# Altium schematic symbol library MCU_Texas_MSP430.SchLib: 361 symbols (part 2 of 7)
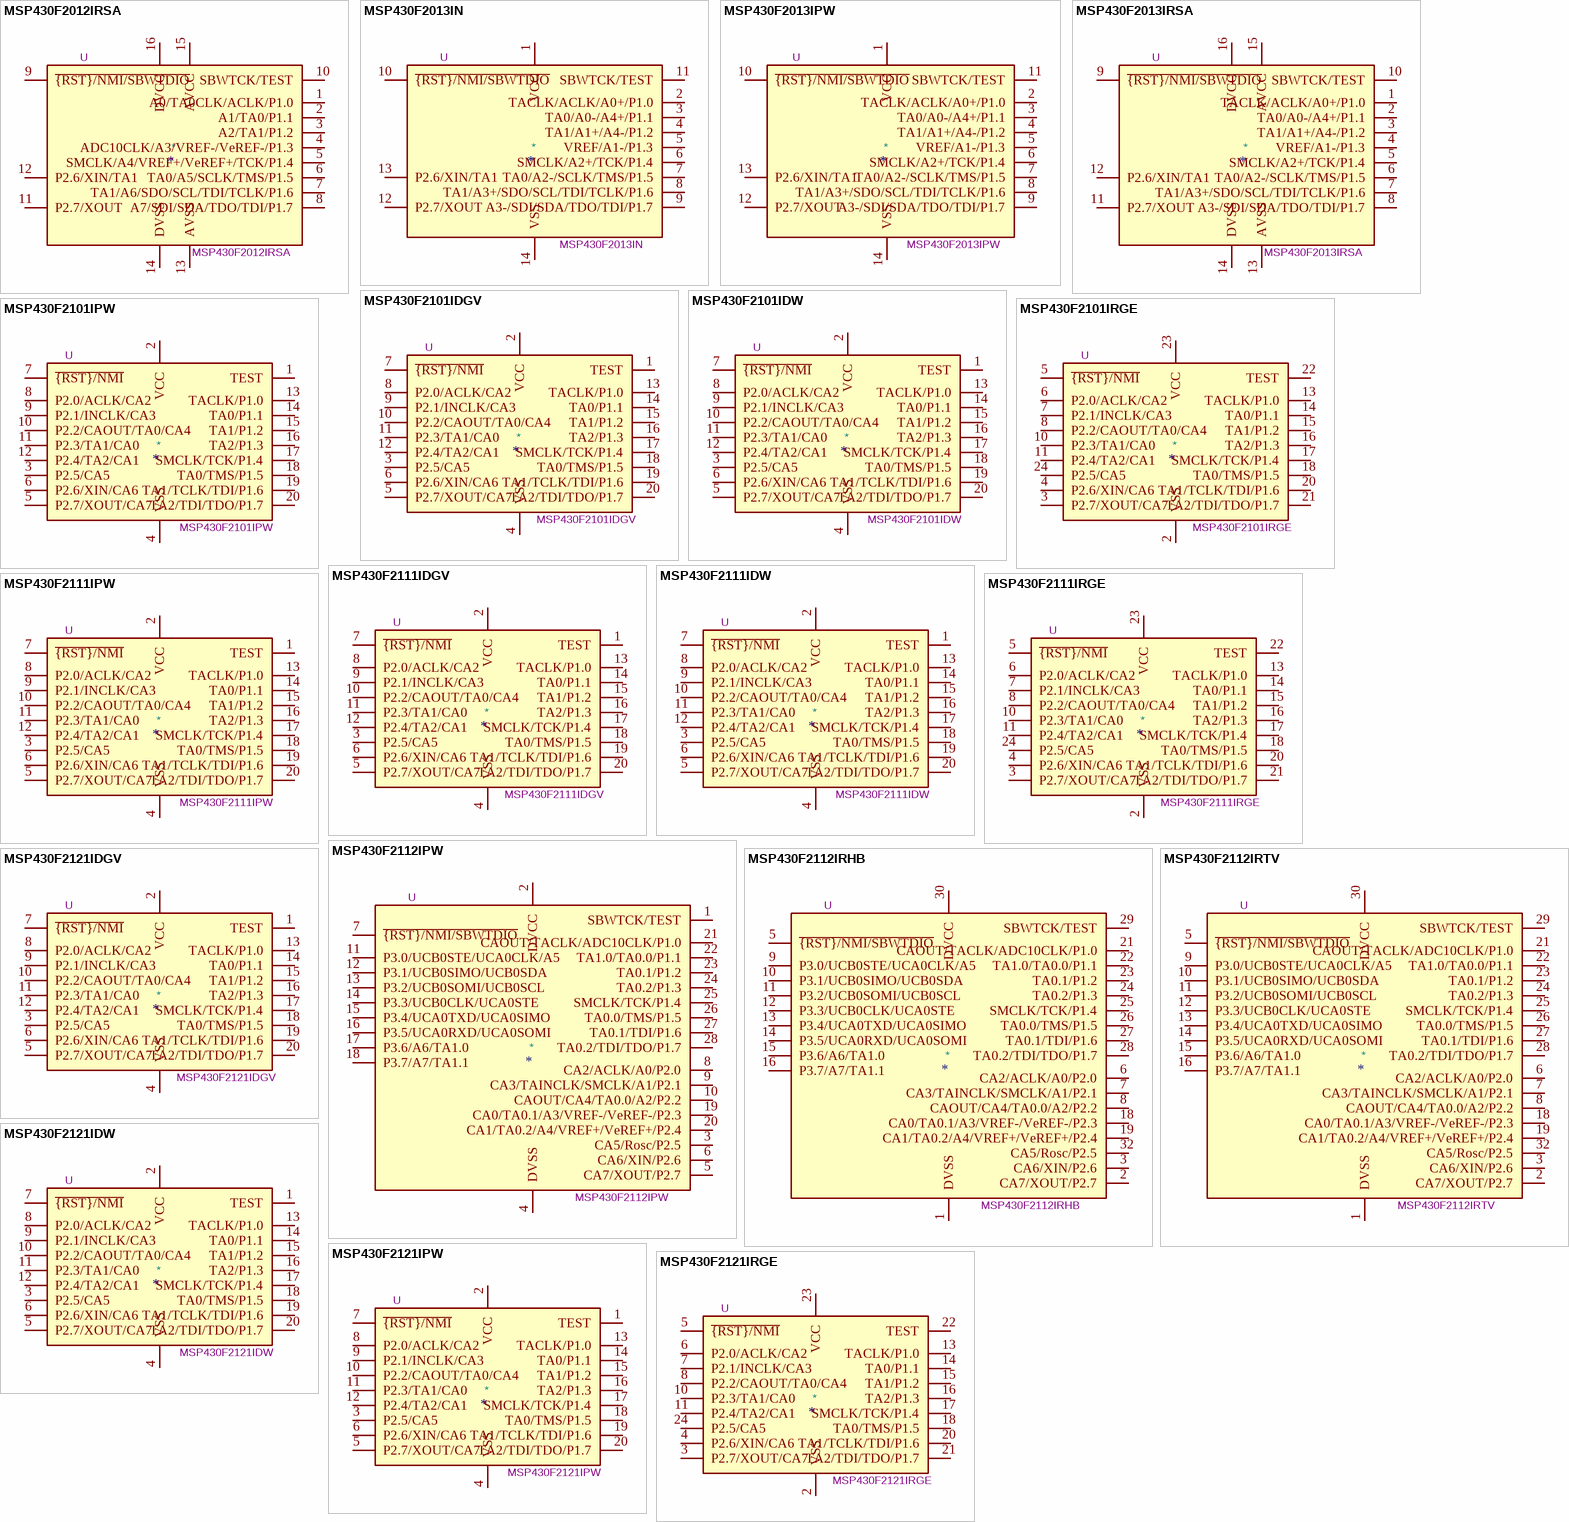
[diagram p35: symbols MSP430F2012IRSA to MSP430F2121IRGE]

## MSP430F2112IRHB
designator *  value MSP430F2112IRHB  Reference: U
2kB + 256B Flash, 256B RAM, QFN-32; ki_keywords: TI MSP430 16-bit mixed signal microcontroller; ki_fp_filters: Texas*VQFN*1EP*5x5mm*P0.5mm*; Footprint: Package_DFN_QFN:Texas_RHB0032E_VQFN-32-1EP_5x5mm_P0.5mm_EP3.45x3.45mm; Datasheet: http://www.ti.com/lit/ds/symlink/msp430f2112.pdf; Description_: 2kB + 256B Flash, 256B RAM, QFN-32
pins: 1 DVSS, 2 CA7/XOUT/P2.7, 3 CA6/XIN/P2.6, 5 ~{{RST}/NMI/SBWTDIO}, 6 CA2/ACLK/A0/P2.0, 7 CA3/TAINCLK/SMCLK/A1/P2.1, 8 CAOUT/CA4/TA0.0/A2/P2.2, 9 P3.0/UCB0STE/UCA0CLK/A5, 10 P3.1/UCB0SIMO/UCB0SDA, 11 P3.2/UCB0SOMI/UCB0SCL, 12 P3.3/UCB0CLK/UCA0STE, 13 P3.4/UCA0TXD/UCA0SIMO, 14 P3.5/UCA0RXD/UCA0SOMI, 15 P3.6/A6/TA1.0, 16 P3.7/A7/TA1.1, 18 CA0/TA0.1/A3/VREF-/VeREF-/P2.3, 19 CA1/TA0.2/A4/VREF+/VeREF+/P2.4, 21 CAOUT/TACLK/ADC10CLK/P1.0, 22 TA1.0/TA0.0/P1.1, 23 TA0.1/P1.2, 24 TA0.2/P1.3, 25 SMCLK/TCK/P1.4, 26 TA0.0/TMS/P1.5, 27 TA0.1/TDI/P1.6, 28 TA0.2/TDI/TDO/P1.7, 29 SBWTCK/TEST, 30 DVCC, 32 CA5/Rosc/P2.5

## MSP430F2112IRTV
designator *  value MSP430F2112IRTV  Reference: U
2kB + 256B Flash, 256B RAM, QFN-32; ki_keywords: TI MSP430 16-bit mixed signal microcontroller; ki_fp_filters: Texas*VQFN*1EP*5x5mm*P0.5mm*; Footprint: Package_DFN_QFN:Texas_RHB0032E_VQFN-32-1EP_5x5mm_P0.5mm_EP3.45x3.45mm; Datasheet: http://www.ti.com/lit/ds/symlink/msp430f2112.pdf; Description_: 2kB + 256B Flash, 256B RAM, QFN-32
pins: 1 DVSS, 2 CA7/XOUT/P2.7, 3 CA6/XIN/P2.6, 5 ~{{RST}/NMI/SBWTDIO}, 6 CA2/ACLK/A0/P2.0, 7 CA3/TAINCLK/SMCLK/A1/P2.1, 8 CAOUT/CA4/TA0.0/A2/P2.2, 9 P3.0/UCB0STE/UCA0CLK/A5, 10 P3.1/UCB0SIMO/UCB0SDA, 11 P3.2/UCB0SOMI/UCB0SCL, 12 P3.3/UCB0CLK/UCA0STE, 13 P3.4/UCA0TXD/UCA0SIMO, 14 P3.5/UCA0RXD/UCA0SOMI, 15 P3.6/A6/TA1.0, 16 P3.7/A7/TA1.1, 18 CA0/TA0.1/A3/VREF-/VeREF-/P2.3, 19 CA1/TA0.2/A4/VREF+/VeREF+/P2.4, 21 CAOUT/TACLK/ADC10CLK/P1.0, 22 TA1.0/TA0.0/P1.1, 23 TA0.1/P1.2, 24 TA0.2/P1.3, 25 SMCLK/TCK/P1.4, 26 TA0.0/TMS/P1.5, 27 TA0.1/TDI/P1.6, 28 TA0.2/TDI/TDO/P1.7, 29 SBWTCK/TEST, 30 DVCC, 32 CA5/Rosc/P2.5

## MSP430F2121IDGV
designator *  value MSP430F2121IDGV  Reference: U
4kB + 256B Flash, 256B RAM, TVSOP-20; ki_keywords: TI MSP430 16-bit mixed signal microcontroller; ki_fp_filters: TSSOP*4.4x6.5mm*P0.65mm*; Footprint: Package_SO:TSSOP-20_4.4x6.5mm_P0.65mm; Datasheet: http://www.ti.com/lit/ds/symlink/msp430f2121.pdf; Description_: 4kB + 256B Flash, 256B RAM, TVSOP-20
pins: 1 TEST, 2 VCC, 3 P2.5/CA5, 4 VSS, 5 P2.7/XOUT/CA7, 6 P2.6/XIN/CA6, 7 ~{{RST}/NMI}, 8 P2.0/ACLK/CA2, 9 P2.1/INCLK/CA3, 10 P2.2/CAOUT/TA0/CA4, 11 P2.3/TA1/CA0, 12 P2.4/TA2/CA1, 13 TACLK/P1.0, 14 TA0/P1.1, 15 TA1/P1.2, 16 TA2/P1.3, 17 SMCLK/TCK/P1.4, 18 TA0/TMS/P1.5, 19 TA1/TCLK/TDI/P1.6, 20 TA2/TDI/TDO/P1.7

## MSP430F2121IDW
designator *  value MSP430F2121IDW  Reference: U
4kB + 256B Flash, 256B RAM, SOWB-20; ki_keywords: TI MSP430 16-bit mixed signal microcontroller; ki_fp_filters: SOIC*7.5x12.8mm*P1.27mm*; Footprint: Package_SO:SOIC-20W_7.5x12.8mm_P1.27mm; Datasheet: http://www.ti.com/lit/ds/symlink/msp430f2121.pdf; Description_: 4kB + 256B Flash, 256B RAM, SOWB-20
pins: 1 TEST, 2 VCC, 3 P2.5/CA5, 4 VSS, 5 P2.7/XOUT/CA7, 6 P2.6/XIN/CA6, 7 ~{{RST}/NMI}, 8 P2.0/ACLK/CA2, 9 P2.1/INCLK/CA3, 10 P2.2/CAOUT/TA0/CA4, 11 P2.3/TA1/CA0, 12 P2.4/TA2/CA1, 13 TACLK/P1.0, 14 TA0/P1.1, 15 TA1/P1.2, 16 TA2/P1.3, 17 SMCLK/TCK/P1.4, 18 TA0/TMS/P1.5, 19 TA1/TCLK/TDI/P1.6, 20 TA2/TDI/TDO/P1.7

## MSP430F2121IPW
designator *  value MSP430F2121IPW  Reference: U
4kB + 256B Flash, 256B RAM, TSSOP-20; ki_keywords: TI MSP430 16-bit mixed signal microcontroller; ki_fp_filters: TSSOP*4.4x6.5mm*P0.65mm*; Footprint: Package_SO:TSSOP-20_4.4x6.5mm_P0.65mm; Datasheet: http://www.ti.com/lit/ds/symlink/msp430f2121.pdf; Description_: 4kB + 256B Flash, 256B RAM, TSSOP-20
pins: 1 TEST, 2 VCC, 3 P2.5/CA5, 4 VSS, 5 P2.7/XOUT/CA7, 6 P2.6/XIN/CA6, 7 ~{{RST}/NMI}, 8 P2.0/ACLK/CA2, 9 P2.1/INCLK/CA3, 10 P2.2/CAOUT/TA0/CA4, 11 P2.3/TA1/CA0, 12 P2.4/TA2/CA1, 13 TACLK/P1.0, 14 TA0/P1.1, 15 TA1/P1.2, 16 TA2/P1.3, 17 SMCLK/TCK/P1.4, 18 TA0/TMS/P1.5, 19 TA1/TCLK/TDI/P1.6, 20 TA2/TDI/TDO/P1.7

## MSP430F2121IRGE
designator *  value MSP430F2121IRGE  Reference: U
4kB + 256B Flash, 256B RAM, QFN-24; ki_keywords: TI MSP430 16-bit mixed signal microcontroller; ki_fp_filters: VQFN*1EP*4x4mm*P0.5mm*; Footprint: Package_DFN_QFN:VQFN-24-1EP_4x4mm_P0.5mm_EP2.45x2.45mm; Datasheet: http://www.ti.com/lit/ds/symlink/msp430f2121.pdf; Description_: 4kB + 256B Flash, 256B RAM, QFN-24
pins: 2 VSS, 3 P2.7/XOUT/CA7, 4 P2.6/XIN/CA6, 5 ~{{RST}/NMI}, 6 P2.0/ACLK/CA2, 7 P2.1/INCLK/CA3, 8 P2.2/CAOUT/TA0/CA4, 10 P2.3/TA1/CA0, 11 P2.4/TA2/CA1, 13 TACLK/P1.0, 14 TA0/P1.1, 15 TA1/P1.2, 16 TA2/P1.3, 17 SMCLK/TCK/P1.4, 18 TA0/TMS/P1.5, 20 TA1/TCLK/TDI/P1.6, 21 TA2/TDI/TDO/P1.7, 22 TEST, 23 VCC, 24 P2.5/CA5

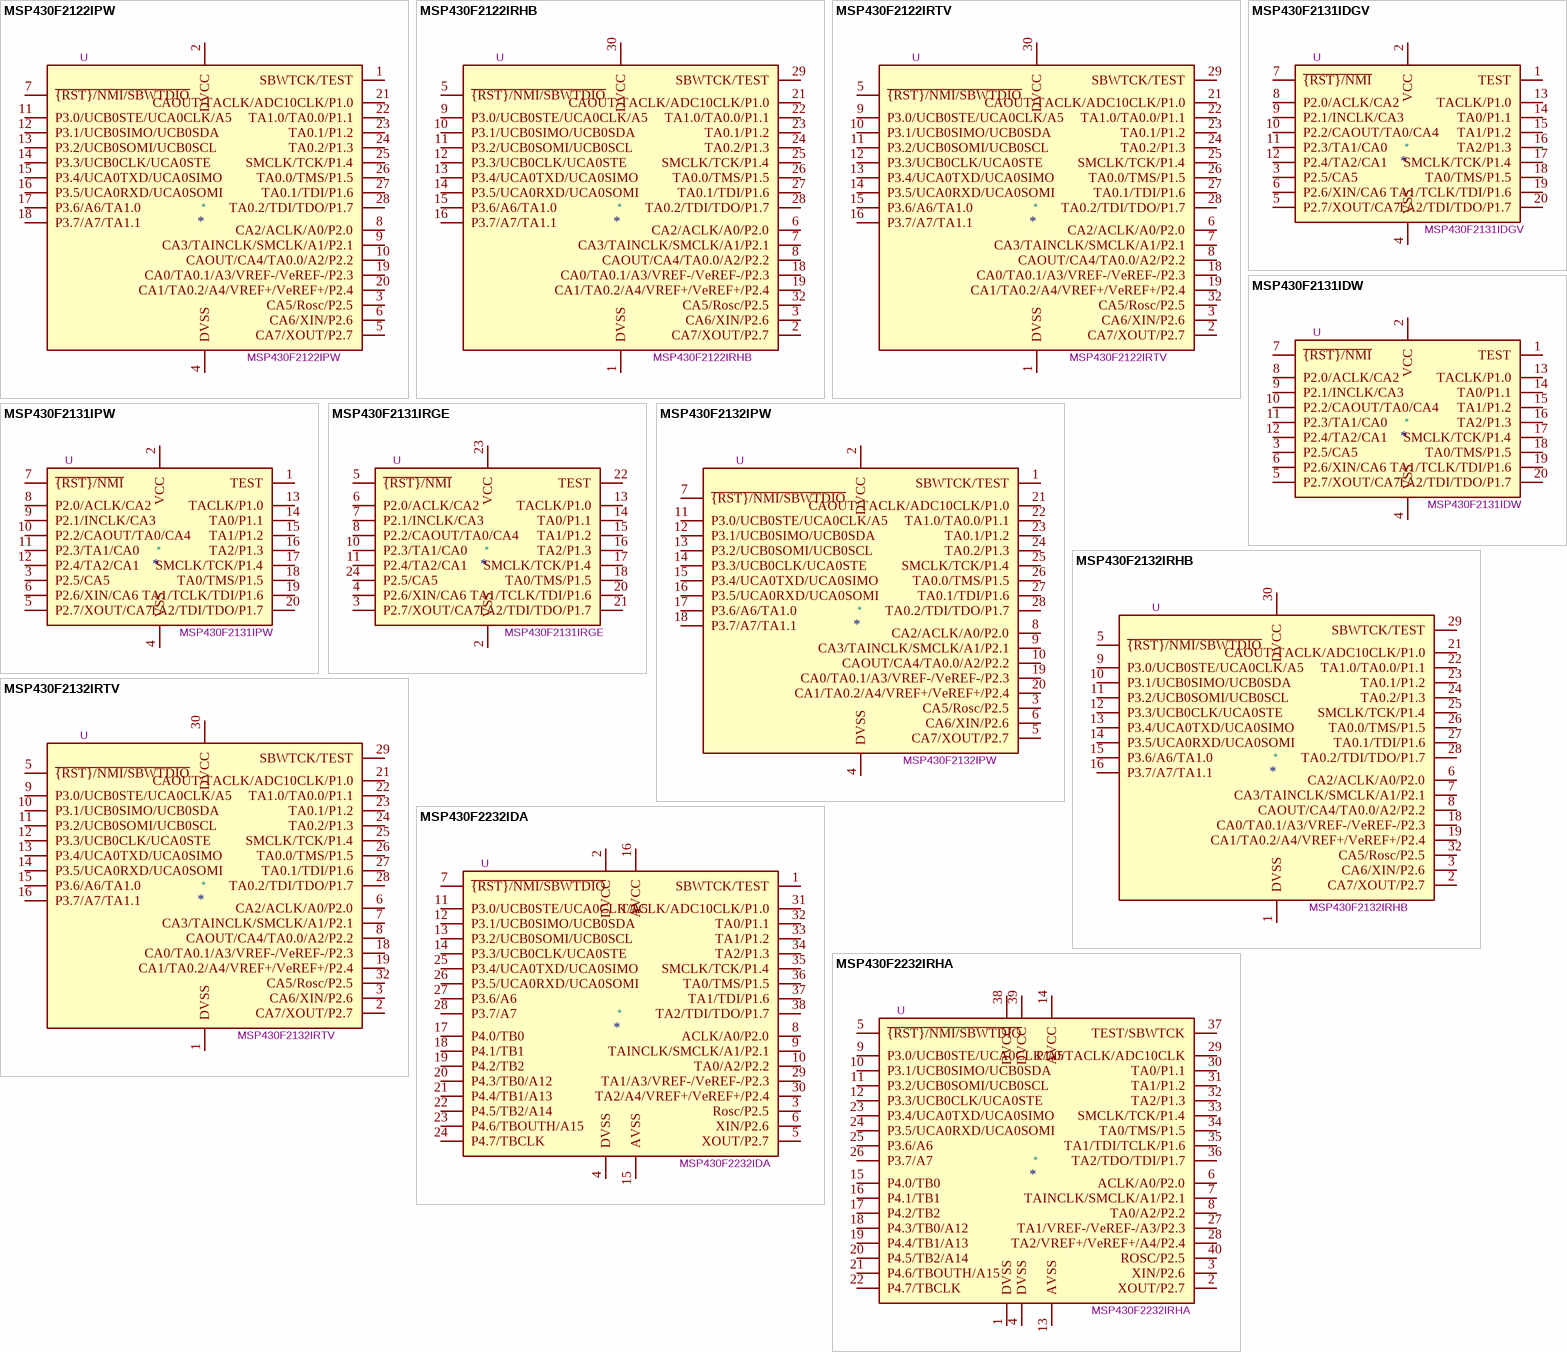
[diagram p4: symbols MSP430F2122IPW to MSP430F2232IRHA]

## MSP430F2122IPW
designator *  value MSP430F2122IPW  Reference: U
4kB + 256B Flash, 512B RAM, TSSOP-28; ki_keywords: TI MSP430 16-bit mixed signal microcontroller; ki_fp_filters: TSSOP*4.4x9.7mm*P0.65mm*; Footprint: Package_SO:TSSOP-28_4.4x9.7mm_P0.65mm; Datasheet: http://www.ti.com/lit/ds/symlink/msp430f2122.pdf; Description_: 4kB + 256B Flash, 512B RAM, TSSOP-28
pins: 1 SBWTCK/TEST, 2 DVCC, 3 CA5/Rosc/P2.5, 4 DVSS, 5 CA7/XOUT/P2.7, 6 CA6/XIN/P2.6, 7 ~{{RST}/NMI/SBWTDIO}, 8 CA2/ACLK/A0/P2.0, 9 CA3/TAINCLK/SMCLK/A1/P2.1, 10 CAOUT/CA4/TA0.0/A2/P2.2, 11 P3.0/UCB0STE/UCA0CLK/A5, 12 P3.1/UCB0SIMO/UCB0SDA, 13 P3.2/UCB0SOMI/UCB0SCL, 14 P3.3/UCB0CLK/UCA0STE, 15 P3.4/UCA0TXD/UCA0SIMO, 16 P3.5/UCA0RXD/UCA0SOMI, 17 P3.6/A6/TA1.0, 18 P3.7/A7/TA1.1, 19 CA0/TA0.1/A3/VREF-/VeREF-/P2.3, 20 CA1/TA0.2/A4/VREF+/VeREF+/P2.4, 21 CAOUT/TACLK/ADC10CLK/P1.0, 22 TA1.0/TA0.0/P1.1, 23 TA0.1/P1.2, 24 TA0.2/P1.3, 25 SMCLK/TCK/P1.4, 26 TA0.0/TMS/P1.5, 27 TA0.1/TDI/P1.6, 28 TA0.2/TDI/TDO/P1.7

## MSP430F2122IRHB
designator *  value MSP430F2122IRHB  Reference: U
4kB + 256B Flash, 512B RAM, QFN-32; ki_keywords: TI MSP430 16-bit mixed signal microcontroller; ki_fp_filters: Texas*VQFN*1EP*5x5mm*P0.5mm*; Footprint: Package_DFN_QFN:Texas_RHB0032E_VQFN-32-1EP_5x5mm_P0.5mm_EP3.45x3.45mm; Datasheet: http://www.ti.com/lit/ds/symlink/msp430f2122.pdf; Description_: 4kB + 256B Flash, 512B RAM, QFN-32
pins: 1 DVSS, 2 CA7/XOUT/P2.7, 3 CA6/XIN/P2.6, 5 ~{{RST}/NMI/SBWTDIO}, 6 CA2/ACLK/A0/P2.0, 7 CA3/TAINCLK/SMCLK/A1/P2.1, 8 CAOUT/CA4/TA0.0/A2/P2.2, 9 P3.0/UCB0STE/UCA0CLK/A5, 10 P3.1/UCB0SIMO/UCB0SDA, 11 P3.2/UCB0SOMI/UCB0SCL, 12 P3.3/UCB0CLK/UCA0STE, 13 P3.4/UCA0TXD/UCA0SIMO, 14 P3.5/UCA0RXD/UCA0SOMI, 15 P3.6/A6/TA1.0, 16 P3.7/A7/TA1.1, 18 CA0/TA0.1/A3/VREF-/VeREF-/P2.3, 19 CA1/TA0.2/A4/VREF+/VeREF+/P2.4, 21 CAOUT/TACLK/ADC10CLK/P1.0, 22 TA1.0/TA0.0/P1.1, 23 TA0.1/P1.2, 24 TA0.2/P1.3, 25 SMCLK/TCK/P1.4, 26 TA0.0/TMS/P1.5, 27 TA0.1/TDI/P1.6, 28 TA0.2/TDI/TDO/P1.7, 29 SBWTCK/TEST, 30 DVCC, 32 CA5/Rosc/P2.5

## MSP430F2122IRTV
designator *  value MSP430F2122IRTV  Reference: U
4kB + 256B Flash, 512B RAM, QFN-32; ki_keywords: TI MSP430 16-bit mixed signal microcontroller; ki_fp_filters: Texas*VQFN*1EP*5x5mm*P0.5mm*; Footprint: Package_DFN_QFN:Texas_RHB0032E_VQFN-32-1EP_5x5mm_P0.5mm_EP3.45x3.45mm; Datasheet: http://www.ti.com/lit/ds/symlink/msp430f2122.pdf; Description_: 4kB + 256B Flash, 512B RAM, QFN-32
pins: 1 DVSS, 2 CA7/XOUT/P2.7, 3 CA6/XIN/P2.6, 5 ~{{RST}/NMI/SBWTDIO}, 6 CA2/ACLK/A0/P2.0, 7 CA3/TAINCLK/SMCLK/A1/P2.1, 8 CAOUT/CA4/TA0.0/A2/P2.2, 9 P3.0/UCB0STE/UCA0CLK/A5, 10 P3.1/UCB0SIMO/UCB0SDA, 11 P3.2/UCB0SOMI/UCB0SCL, 12 P3.3/UCB0CLK/UCA0STE, 13 P3.4/UCA0TXD/UCA0SIMO, 14 P3.5/UCA0RXD/UCA0SOMI, 15 P3.6/A6/TA1.0, 16 P3.7/A7/TA1.1, 18 CA0/TA0.1/A3/VREF-/VeREF-/P2.3, 19 CA1/TA0.2/A4/VREF+/VeREF+/P2.4, 21 CAOUT/TACLK/ADC10CLK/P1.0, 22 TA1.0/TA0.0/P1.1, 23 TA0.1/P1.2, 24 TA0.2/P1.3, 25 SMCLK/TCK/P1.4, 26 TA0.0/TMS/P1.5, 27 TA0.1/TDI/P1.6, 28 TA0.2/TDI/TDO/P1.7, 29 SBWTCK/TEST, 30 DVCC, 32 CA5/Rosc/P2.5

## MSP430F2131IDGV
designator *  value MSP430F2131IDGV  Reference: U
8kB + 256B Flash, 256B RAM, TVSOP-20; ki_keywords: TI MSP430 16-bit mixed signal microcontroller; ki_fp_filters: TSSOP*4.4x6.5mm*P0.65mm*; Footprint: Package_SO:TSSOP-20_4.4x6.5mm_P0.65mm; Datasheet: http://www.ti.com/lit/ds/symlink/msp430f2131.pdf; Description_: 8kB + 256B Flash, 256B RAM, TVSOP-20
pins: 1 TEST, 2 VCC, 3 P2.5/CA5, 4 VSS, 5 P2.7/XOUT/CA7, 6 P2.6/XIN/CA6, 7 ~{{RST}/NMI}, 8 P2.0/ACLK/CA2, 9 P2.1/INCLK/CA3, 10 P2.2/CAOUT/TA0/CA4, 11 P2.3/TA1/CA0, 12 P2.4/TA2/CA1, 13 TACLK/P1.0, 14 TA0/P1.1, 15 TA1/P1.2, 16 TA2/P1.3, 17 SMCLK/TCK/P1.4, 18 TA0/TMS/P1.5, 19 TA1/TCLK/TDI/P1.6, 20 TA2/TDI/TDO/P1.7

## MSP430F2131IDW
designator *  value MSP430F2131IDW  Reference: U
8kB + 256B Flash, 256B RAM, SOWB-20; ki_keywords: TI MSP430 16-bit mixed signal microcontroller; ki_fp_filters: SOIC*7.5x12.8mm*P1.27mm*; Footprint: Package_SO:SOIC-20W_7.5x12.8mm_P1.27mm; Datasheet: http://www.ti.com/lit/ds/symlink/msp430f2131.pdf; Description_: 8kB + 256B Flash, 256B RAM, SOWB-20
pins: 1 TEST, 2 VCC, 3 P2.5/CA5, 4 VSS, 5 P2.7/XOUT/CA7, 6 P2.6/XIN/CA6, 7 ~{{RST}/NMI}, 8 P2.0/ACLK/CA2, 9 P2.1/INCLK/CA3, 10 P2.2/CAOUT/TA0/CA4, 11 P2.3/TA1/CA0, 12 P2.4/TA2/CA1, 13 TACLK/P1.0, 14 TA0/P1.1, 15 TA1/P1.2, 16 TA2/P1.3, 17 SMCLK/TCK/P1.4, 18 TA0/TMS/P1.5, 19 TA1/TCLK/TDI/P1.6, 20 TA2/TDI/TDO/P1.7

## MSP430F2131IPW
designator *  value MSP430F2131IPW  Reference: U
8kB + 256B Flash, 256B RAM, TSSOP-20; ki_keywords: TI MSP430 16-bit mixed signal microcontroller; ki_fp_filters: TSSOP*4.4x6.5mm*P0.65mm*; Footprint: Package_SO:TSSOP-20_4.4x6.5mm_P0.65mm; Datasheet: http://www.ti.com/lit/ds/symlink/msp430f2131.pdf; Description_: 8kB + 256B Flash, 256B RAM, TSSOP-20
pins: 1 TEST, 2 VCC, 3 P2.5/CA5, 4 VSS, 5 P2.7/XOUT/CA7, 6 P2.6/XIN/CA6, 7 ~{{RST}/NMI}, 8 P2.0/ACLK/CA2, 9 P2.1/INCLK/CA3, 10 P2.2/CAOUT/TA0/CA4, 11 P2.3/TA1/CA0, 12 P2.4/TA2/CA1, 13 TACLK/P1.0, 14 TA0/P1.1, 15 TA1/P1.2, 16 TA2/P1.3, 17 SMCLK/TCK/P1.4, 18 TA0/TMS/P1.5, 19 TA1/TCLK/TDI/P1.6, 20 TA2/TDI/TDO/P1.7

## MSP430F2131IRGE
designator *  value MSP430F2131IRGE  Reference: U
8kB + 256B Flash, 256B RAM, QFN-24; ki_keywords: TI MSP430 16-bit mixed signal microcontroller; ki_fp_filters: VQFN*1EP*4x4mm*P0.5mm*; Footprint: Package_DFN_QFN:VQFN-24-1EP_4x4mm_P0.5mm_EP2.45x2.45mm; Datasheet: http://www.ti.com/lit/ds/symlink/msp430f2131.pdf; Description_: 8kB + 256B Flash, 256B RAM, QFN-24
pins: 2 VSS, 3 P2.7/XOUT/CA7, 4 P2.6/XIN/CA6, 5 ~{{RST}/NMI}, 6 P2.0/ACLK/CA2, 7 P2.1/INCLK/CA3, 8 P2.2/CAOUT/TA0/CA4, 10 P2.3/TA1/CA0, 11 P2.4/TA2/CA1, 13 TACLK/P1.0, 14 TA0/P1.1, 15 TA1/P1.2, 16 TA2/P1.3, 17 SMCLK/TCK/P1.4, 18 TA0/TMS/P1.5, 20 TA1/TCLK/TDI/P1.6, 21 TA2/TDI/TDO/P1.7, 22 TEST, 23 VCC, 24 P2.5/CA5

## MSP430F2132IPW
designator *  value MSP430F2132IPW  Reference: U
8kB + 256B Flash, 512B RAM, TSSOP-28; ki_keywords: TI MSP430 16-bit mixed signal microcontroller; ki_fp_filters: TSSOP*4.4x9.7mm*P0.65mm*; Footprint: Package_SO:TSSOP-28_4.4x9.7mm_P0.65mm; Datasheet: http://www.ti.com/lit/ds/symlink/msp430f2132.pdf; Description_: 8kB + 256B Flash, 512B RAM, TSSOP-28
pins: 1 SBWTCK/TEST, 2 DVCC, 3 CA5/Rosc/P2.5, 4 DVSS, 5 CA7/XOUT/P2.7, 6 CA6/XIN/P2.6, 7 ~{{RST}/NMI/SBWTDIO}, 8 CA2/ACLK/A0/P2.0, 9 CA3/TAINCLK/SMCLK/A1/P2.1, 10 CAOUT/CA4/TA0.0/A2/P2.2, 11 P3.0/UCB0STE/UCA0CLK/A5, 12 P3.1/UCB0SIMO/UCB0SDA, 13 P3.2/UCB0SOMI/UCB0SCL, 14 P3.3/UCB0CLK/UCA0STE, 15 P3.4/UCA0TXD/UCA0SIMO, 16 P3.5/UCA0RXD/UCA0SOMI, 17 P3.6/A6/TA1.0, 18 P3.7/A7/TA1.1, 19 CA0/TA0.1/A3/VREF-/VeREF-/P2.3, 20 CA1/TA0.2/A4/VREF+/VeREF+/P2.4, 21 CAOUT/TACLK/ADC10CLK/P1.0, 22 TA1.0/TA0.0/P1.1, 23 TA0.1/P1.2, 24 TA0.2/P1.3, 25 SMCLK/TCK/P1.4, 26 TA0.0/TMS/P1.5, 27 TA0.1/TDI/P1.6, 28 TA0.2/TDI/TDO/P1.7

## MSP430F2132IRHB
designator *  value MSP430F2132IRHB  Reference: U
8kB + 256B Flash, 512B RAM, QFN-32; ki_keywords: TI MSP430 16-bit mixed signal microcontroller; ki_fp_filters: Texas*VQFN*1EP*5x5mm*P0.5mm*; Footprint: Package_DFN_QFN:Texas_RHB0032E_VQFN-32-1EP_5x5mm_P0.5mm_EP3.45x3.45mm; Datasheet: http://www.ti.com/lit/ds/symlink/msp430f2132.pdf; Description_: 8kB + 256B Flash, 512B RAM, QFN-32
pins: 1 DVSS, 2 CA7/XOUT/P2.7, 3 CA6/XIN/P2.6, 5 ~{{RST}/NMI/SBWTDIO}, 6 CA2/ACLK/A0/P2.0, 7 CA3/TAINCLK/SMCLK/A1/P2.1, 8 CAOUT/CA4/TA0.0/A2/P2.2, 9 P3.0/UCB0STE/UCA0CLK/A5, 10 P3.1/UCB0SIMO/UCB0SDA, 11 P3.2/UCB0SOMI/UCB0SCL, 12 P3.3/UCB0CLK/UCA0STE, 13 P3.4/UCA0TXD/UCA0SIMO, 14 P3.5/UCA0RXD/UCA0SOMI, 15 P3.6/A6/TA1.0, 16 P3.7/A7/TA1.1, 18 CA0/TA0.1/A3/VREF-/VeREF-/P2.3, 19 CA1/TA0.2/A4/VREF+/VeREF+/P2.4, 21 CAOUT/TACLK/ADC10CLK/P1.0, 22 TA1.0/TA0.0/P1.1, 23 TA0.1/P1.2, 24 TA0.2/P1.3, 25 SMCLK/TCK/P1.4, 26 TA0.0/TMS/P1.5, 27 TA0.1/TDI/P1.6, 28 TA0.2/TDI/TDO/P1.7, 29 SBWTCK/TEST, 30 DVCC, 32 CA5/Rosc/P2.5

## MSP430F2132IRTV
designator *  value MSP430F2132IRTV  Reference: U
8kB + 256B Flash, 512B RAM, QFN-32; ki_keywords: TI MSP430 16-bit mixed signal microcontroller; ki_fp_filters: Texas*VQFN*1EP*5x5mm*P0.5mm*; Footprint: Package_DFN_QFN:Texas_RHB0032E_VQFN-32-1EP_5x5mm_P0.5mm_EP3.45x3.45mm; Datasheet: http://www.ti.com/lit/ds/symlink/msp430f2132.pdf; Description_: 8kB + 256B Flash, 512B RAM, QFN-32
pins: 1 DVSS, 2 CA7/XOUT/P2.7, 3 CA6/XIN/P2.6, 5 ~{{RST}/NMI/SBWTDIO}, 6 CA2/ACLK/A0/P2.0, 7 CA3/TAINCLK/SMCLK/A1/P2.1, 8 CAOUT/CA4/TA0.0/A2/P2.2, 9 P3.0/UCB0STE/UCA0CLK/A5, 10 P3.1/UCB0SIMO/UCB0SDA, 11 P3.2/UCB0SOMI/UCB0SCL, 12 P3.3/UCB0CLK/UCA0STE, 13 P3.4/UCA0TXD/UCA0SIMO, 14 P3.5/UCA0RXD/UCA0SOMI, 15 P3.6/A6/TA1.0, 16 P3.7/A7/TA1.1, 18 CA0/TA0.1/A3/VREF-/VeREF-/P2.3, 19 CA1/TA0.2/A4/VREF+/VeREF+/P2.4, 21 CAOUT/TACLK/ADC10CLK/P1.0, 22 TA1.0/TA0.0/P1.1, 23 TA0.1/P1.2, 24 TA0.2/P1.3, 25 SMCLK/TCK/P1.4, 26 TA0.0/TMS/P1.5, 27 TA0.1/TDI/P1.6, 28 TA0.2/TDI/TDO/P1.7, 29 SBWTCK/TEST, 30 DVCC, 32 CA5/Rosc/P2.5

## MSP430F2232IDA
designator *  value MSP430F2232IDA  Reference: U
8kB + 256B Flash, 512B RAM, TSSOP-38; ki_keywords: TI MSP430 16-bit mixed signal microcontroller; ki_fp_filters: TSSOP*6.1x12.5mm*P0.65mm*; Footprint: Package_SO:TSSOP-38_6.1x12.5mm_P0.65mm; Datasheet: http://www.ti.com/lit/ds/symlink/msp430f2232.pdf; Description_: 8kB + 256B Flash, 512B RAM, TSSOP-38
pins: 1 SBWTCK/TEST, 2 DVCC, 3 Rosc/P2.5, 4 DVSS, 5 XOUT/P2.7, 6 XIN/P2.6, 7 ~{{RST}/NMI/SBWTDIO}, 8 ACLK/A0/P2.0, 9 TAINCLK/SMCLK/A1/P2.1, 10 TA0/A2/P2.2, 11 P3.0/UCB0STE/UCA0CLK/A5, 12 P3.1/UCB0SIMO/UCB0SDA, 13 P3.2/UCB0SOMI/UCB0SCL, 14 P3.3/UCB0CLK/UCA0STE, 15 AVSS, 16 AVCC, 17 P4.0/TB0, 18 P4.1/TB1, 19 P4.2/TB2, 20 P4.3/TB0/A12, 21 P4.4/TB1/A13, 22 P4.5/TB2/A14, 23 P4.6/TBOUTH/A15, 24 P4.7/TBCLK, 25 P3.4/UCA0TXD/UCA0SIMO, 26 P3.5/UCA0RXD/UCA0SOMI, 27 P3.6/A6, 28 P3.7/A7, 29 TA1/A3/VREF-/VeREF-/P2.3, 30 TA2/A4/VREF+/VeREF+/P2.4, 31 TACLK/ADC10CLK/P1.0, 32 TA0/P1.1, 33 TA1/P1.2, 34 TA2/P1.3, 35 SMCLK/TCK/P1.4, 36 TA0/TMS/P1.5, 37 TA1/TDI/P1.6, 38 TA2/TDI/TDO/P1.7

## MSP430F2232IRHA
designator *  value MSP430F2232IRHA  Reference: U
8kB + 256B Flash, 512B RAM, QFN-40; ki_keywords: TI MSP430 16-bit mixed signal microcontroller; ki_fp_filters: Texas*RHA0040B*; Footprint: Package_DFN_QFN:Texas_RHA0040B_VQFN-40-1EP_6x6mm_P0.5mm_EP4.15x4.15mm; Datasheet: http://www.ti.com/lit/ds/symlink/msp430f2232.pdf; Description_: 8kB + 256B Flash, 512B RAM, QFN-40
pins: 1 DVSS, 2 XOUT/P2.7, 3 XIN/P2.6, 4 DVSS, 5 ~{{RST}/NMI/SBWTDIO}, 6 ACLK/A0/P2.0, 7 TAINCLK/SMCLK/A1/P2.1, 8 TA0/A2/P2.2, 9 P3.0/UCB0STE/UCA0CLK/A5, 10 P3.1/UCB0SIMO/UCB0SDA, 11 P3.2/UCB0SOMI/UCB0SCL, 12 P3.3/UCB0CLK/UCA0STE, 13 AVSS, 14 AVCC, 15 P4.0/TB0, 16 P4.1/TB1, 17 P4.2/TB2, 18 P4.3/TB0/A12, 19 P4.4/TB1/A13, 20 P4.5/TB2/A14, 21 P4.6/TBOUTH/A15, 22 P4.7/TBCLK, 23 P3.4/UCA0TXD/UCA0SIMO, 24 P3.5/UCA0RXD/UCA0SOMI, 25 P3.6/A6, 26 P3.7/A7, 27 TA1/VREF-/VeREF-/A3/P2.3, 28 TA2/VREF+/VeREF+/A4/P2.4, 29 P1.0/TACLK/ADC10CLK, 30 TA0/P1.1, 31 TA1/P1.2, 32 TA2/P1.3, 33 SMCLK/TCK/P1.4, 34 TA0/TMS/P1.5, 35 TA1/TDI/TCLK/P1.6, 36 TA2/TDO/TDI/P1.7, 37 TEST/SBWTCK, 38 DVCC, 39 DVCC, 40 ROSC/P2.5

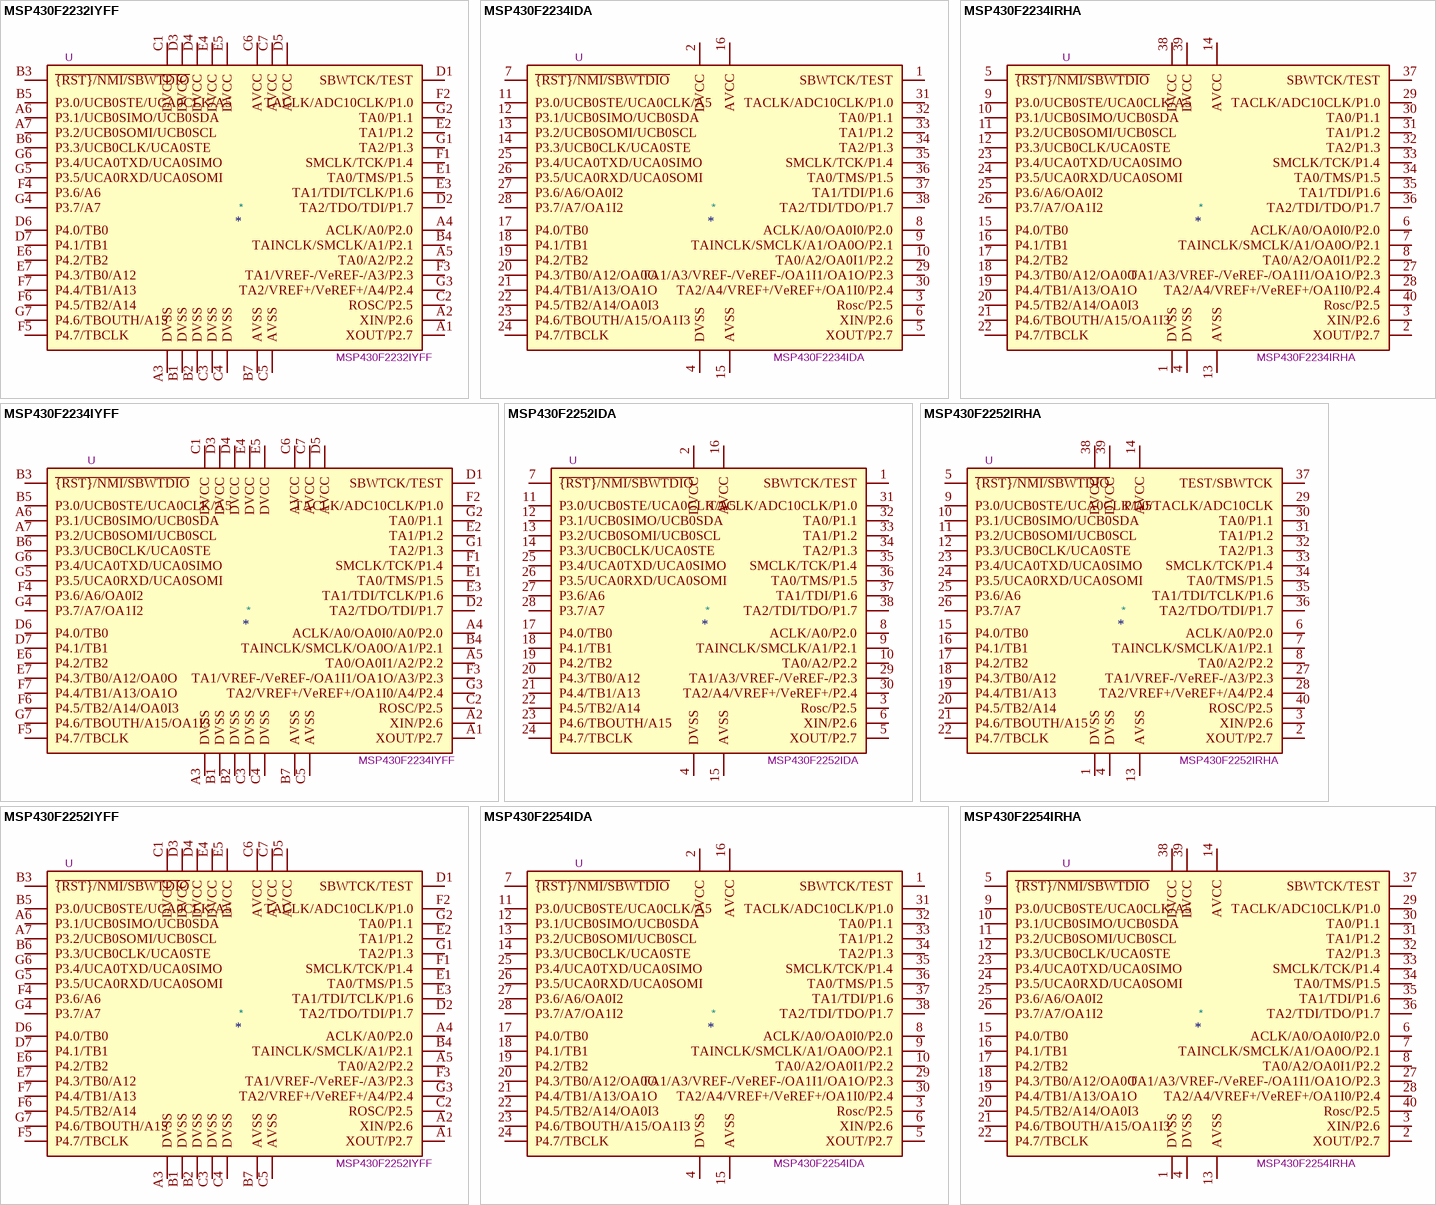
[diagram p5: symbols MSP430F2232IYFF to MSP430F2254IRHA]

## MSP430F2232IYFF
designator *  value MSP430F2232IYFF  Reference: U
8kB + 256B Flash, 512B RAM, BGA-49; ki_keywords: TI MSP430 16-bit mixed signal microcontroller; ki_fp_filters: Texas*DSBGA*3.33x3.488mm*Layout7x7*P0.4mm*; Footprint: Package_BGA:Texas_DSBGA-49_3.33x3.488mm_Layout7x7_P0.4mm; Datasheet: http://www.ti.com/lit/ds/symlink/msp430f2232.pdf; Description_: 8kB + 256B Flash, 512B RAM, BGA-49
pins: A1 XOUT/P2.7, A2 XIN/P2.6, A3 DVSS, A4 ACLK/A0/P2.0, A5 TA0/A2/P2.2, A6 P3.1/UCB0SIMO/UCB0SDA, A7 P3.2/UCB0SOMI/UCB0SCL, B1 DVSS, B2 DVSS, B3 ~{{RST}/NMI/SBWTDIO}, B4 TAINCLK/SMCLK/A1/P2.1, B5 P3.0/UCB0STE/UCA0CLK/A5, B6 P3.3/UCB0CLK/UCA0STE, B7 AVSS, C1 DVCC, C2 ROSC/P2.5, C3 DVSS, C4 DVSS, C5 AVSS, C6 AVCC, C7 AVCC, D1 SBWTCK/TEST, D2 TA2/TDO/TDI/P1.7, D3 DVCC, D4 DVCC, D5 AVCC, D6 P4.0/TB0, D7 P4.1/TB1, E1 TA0/TMS/P1.5, E2 TA1/P1.2, E3 TA1/TDI/TCLK/P1.6, E4 DVCC, E5 DVCC, E6 P4.2/TB2, E7 P4.3/TB0/A12, F1 SMCLK/TCK/P1.4, F2 TACLK/ADC10CLK/P1.0, F3 TA1/VREF-/VeREF-/A3/P2.3, F4 P3.6/A6, F5 P4.7/TBCLK, F6 P4.5/TB2/A14, F7 P4.4/TB1/A13, G1 TA2/P1.3, G2 TA0/P1.1, G3 TA2/VREF+/VeREF+/A4/P2.4, G4 P3.7/A7, G5 P3.5/UCA0RXD/UCA0SOMI, G6 P3.4/UCA0TXD/UCA0SIMO, G7 P4.6/TBOUTH/A15

## MSP430F2234IDA
designator *  value MSP430F2234IDA  Reference: U
8kB + 256B Flash, 512B RAM, TSSOP-38; ki_keywords: TI MSP430 16-bit mixed signal microcontroller; ki_fp_filters: TSSOP*6.1x12.5mm*P0.65mm*; Footprint: Package_SO:TSSOP-38_6.1x12.5mm_P0.65mm; Datasheet: http://www.ti.com/lit/ds/symlink/msp430f2234.pdf; Description_: 8kB + 256B Flash, 512B RAM, TSSOP-38
pins: 1 SBWTCK/TEST, 2 DVCC, 3 Rosc/P2.5, 4 DVSS, 5 XOUT/P2.7, 6 XIN/P2.6, 7 ~{{RST}/NMI/SBWTDIO}, 8 ACLK/A0/OA0I0/P2.0, 9 TAINCLK/SMCLK/A1/OA0O/P2.1, 10 TA0/A2/OA0I1/P2.2, 11 P3.0/UCB0STE/UCA0CLK/A5, 12 P3.1/UCB0SIMO/UCB0SDA, 13 P3.2/UCB0SOMI/UCB0SCL, 14 P3.3/UCB0CLK/UCA0STE, 15 AVSS, 16 AVCC, 17 P4.0/TB0, 18 P4.1/TB1, 19 P4.2/TB2, 20 P4.3/TB0/A12/OA0O, 21 P4.4/TB1/A13/OA1O, 22 P4.5/TB2/A14/OA0I3, 23 P4.6/TBOUTH/A15/OA1I3, 24 P4.7/TBCLK, 25 P3.4/UCA0TXD/UCA0SIMO, 26 P3.5/UCA0RXD/UCA0SOMI, 27 P3.6/A6/OA0I2, 28 P3.7/A7/OA1I2, 29 TA1/A3/VREF-/VeREF-/OA1I1/OA1O/P2.3, 30 TA2/A4/VREF+/VeREF+/OA1I0/P2.4, 31 TACLK/ADC10CLK/P1.0, 32 TA0/P1.1, 33 TA1/P1.2, 34 TA2/P1.3, 35 SMCLK/TCK/P1.4, 36 TA0/TMS/P1.5, 37 TA1/TDI/P1.6, 38 TA2/TDI/TDO/P1.7

## MSP430F2234IRHA
designator *  value MSP430F2234IRHA  Reference: U
8kB + 256B Flash, 512B RAM, QFN-40; ki_keywords: TI MSP430 16-bit mixed signal microcontroller; ki_fp_filters: Texas*RHA0040B*; Footprint: Package_DFN_QFN:Texas_RHA0040B_VQFN-40-1EP_6x6mm_P0.5mm_EP4.15x4.15mm; Datasheet: http://www.ti.com/lit/ds/symlink/msp430f2234.pdf; Description_: 8kB + 256B Flash, 512B RAM, QFN-40
pins: 1 DVSS, 2 XOUT/P2.7, 3 XIN/P2.6, 4 DVSS, 5 ~{{RST}/NMI/SBWTDIO}, 6 ACLK/A0/OA0I0/P2.0, 7 TAINCLK/SMCLK/A1/OA0O/P2.1, 8 TA0/A2/OA0I1/P2.2, 9 P3.0/UCB0STE/UCA0CLK/A5, 10 P3.1/UCB0SIMO/UCB0SDA, 11 P3.2/UCB0SOMI/UCB0SCL, 12 P3.3/UCB0CLK/UCA0STE, 13 AVSS, 14 AVCC, 15 P4.0/TB0, 16 P4.1/TB1, 17 P4.2/TB2, 18 P4.3/TB0/A12/OA0O, 19 P4.4/TB1/A13/OA1O, 20 P4.5/TB2/A14/OA0I3, 21 P4.6/TBOUTH/A15/OA1I3, 22 P4.7/TBCLK, 23 P3.4/UCA0TXD/UCA0SIMO, 24 P3.5/UCA0RXD/UCA0SOMI, 25 P3.6/A6/OA0I2, 26 P3.7/A7/OA1I2, 27 TA1/A3/VREF-/VeREF-/OA1I1/OA1O/P2.3, 28 TA2/A4/VREF+/VeREF+/OA1I0/P2.4, 29 TACLK/ADC10CLK/P1.0, 30 TA0/P1.1, 31 TA1/P1.2, 32 TA2/P1.3, 33 SMCLK/TCK/P1.4, 34 TA0/TMS/P1.5, 35 TA1/TDI/P1.6, 36 TA2/TDI/TDO/P1.7, 37 SBWTCK/TEST, 38 DVCC, 39 DVCC, 40 Rosc/P2.5

## MSP430F2234IYFF
designator *  value MSP430F2234IYFF  Reference: U
8kB + 256B Flash, 512B RAM, BGA-49; ki_keywords: TI MSP430 16-bit mixed signal microcontroller; ki_fp_filters: Texas*DSBGA*3.33x3.488mm*Layout7x7*P0.4mm*; Footprint: Package_BGA:Texas_DSBGA-49_3.33x3.488mm_Layout7x7_P0.4mm; Datasheet: http://www.ti.com/lit/ds/symlink/msp430f2234.pdf; Description_: 8kB + 256B Flash, 512B RAM, BGA-49
pins: A1 XOUT/P2.7, A2 XIN/P2.6, A3 DVSS, A4 ACLK/A0/OA0I0/A0/P2.0, A5 TA0/OA0I1/A2/P2.2, A6 P3.1/UCB0SIMO/UCB0SDA, A7 P3.2/UCB0SOMI/UCB0SCL, B1 DVSS, B2 DVSS, B3 ~{{RST}/NMI/SBWTDIO}, B4 TAINCLK/SMCLK/OA0O/A1/P2.1, B5 P3.0/UCB0STE/UCA0CLK/A5, B6 P3.3/UCB0CLK/UCA0STE, B7 AVSS, C1 DVCC, C2 ROSC/P2.5, C3 DVSS, C4 DVSS, C5 AVSS, C6 AVCC, C7 AVCC, D1 SBWTCK/TEST, D2 TA2/TDO/TDI/P1.7, D3 DVCC, D4 DVCC, D5 AVCC, D6 P4.0/TB0, D7 P4.1/TB1, E1 TA0/TMS/P1.5, E2 TA1/P1.2, E3 TA1/TDI/TCLK/P1.6, E4 DVCC, E5 DVCC, E6 P4.2/TB2, E7 P4.3/TB0/A12/OA0O, F1 SMCLK/TCK/P1.4, F2 TACLK/ADC10CLK/P1.0, F3 TA1/VREF-/VeREF-/OA1I1/OA1O/A3/P2.3, F4 P3.6/A6/OA0I2, F5 P4.7/TBCLK, F6 P4.5/TB2/A14/OA0I3, F7 P4.4/TB1/A13/OA1O, G1 TA2/P1.3, G2 TA0/P1.1, G3 TA2/VREF+/VeREF+/OA1I0/A4/P2.4, G4 P3.7/A7/OA1I2, G5 P3.5/UCA0RXD/UCA0SOMI, G6 P3.4/UCA0TXD/UCA0SIMO, G7 P4.6/TBOUTH/A15/OA1I3

## MSP430F2252IDA
designator *  value MSP430F2252IDA  Reference: U
16kB + 256B Flash, 512B RAM, TSSOP-38; ki_keywords: TI MSP430 16-bit mixed signal microcontroller; ki_fp_filters: TSSOP*6.1x12.5mm*P0.65mm*; Footprint: Package_SO:TSSOP-38_6.1x12.5mm_P0.65mm; Datasheet: http://www.ti.com/lit/ds/symlink/msp430f2252.pdf; Description_: 16kB + 256B Flash, 512B RAM, TSSOP-38
pins: 1 SBWTCK/TEST, 2 DVCC, 3 Rosc/P2.5, 4 DVSS, 5 XOUT/P2.7, 6 XIN/P2.6, 7 ~{{RST}/NMI/SBWTDIO}, 8 ACLK/A0/P2.0, 9 TAINCLK/SMCLK/A1/P2.1, 10 TA0/A2/P2.2, 11 P3.0/UCB0STE/UCA0CLK/A5, 12 P3.1/UCB0SIMO/UCB0SDA, 13 P3.2/UCB0SOMI/UCB0SCL, 14 P3.3/UCB0CLK/UCA0STE, 15 AVSS, 16 AVCC, 17 P4.0/TB0, 18 P4.1/TB1, 19 P4.2/TB2, 20 P4.3/TB0/A12, 21 P4.4/TB1/A13, 22 P4.5/TB2/A14, 23 P4.6/TBOUTH/A15, 24 P4.7/TBCLK, 25 P3.4/UCA0TXD/UCA0SIMO, 26 P3.5/UCA0RXD/UCA0SOMI, 27 P3.6/A6, 28 P3.7/A7, 29 TA1/A3/VREF-/VeREF-/P2.3, 30 TA2/A4/VREF+/VeREF+/P2.4, 31 TACLK/ADC10CLK/P1.0, 32 TA0/P1.1, 33 TA1/P1.2, 34 TA2/P1.3, 35 SMCLK/TCK/P1.4, 36 TA0/TMS/P1.5, 37 TA1/TDI/P1.6, 38 TA2/TDI/TDO/P1.7

## MSP430F2252IRHA
designator *  value MSP430F2252IRHA  Reference: U
16kB + 256B Flash, 512B RAM, QFN-40; ki_keywords: TI MSP430 16-bit mixed signal microcontroller; ki_fp_filters: Texas*RHA0040B*; Footprint: Package_DFN_QFN:Texas_RHA0040B_VQFN-40-1EP_6x6mm_P0.5mm_EP4.15x4.15mm; Datasheet: http://www.ti.com/lit/ds/symlink/msp430f2252.pdf; Description_: 16kB + 256B Flash, 512B RAM, QFN-40
pins: 1 DVSS, 2 XOUT/P2.7, 3 XIN/P2.6, 4 DVSS, 5 ~{{RST}/NMI/SBWTDIO}, 6 ACLK/A0/P2.0, 7 TAINCLK/SMCLK/A1/P2.1, 8 TA0/A2/P2.2, 9 P3.0/UCB0STE/UCA0CLK/A5, 10 P3.1/UCB0SIMO/UCB0SDA, 11 P3.2/UCB0SOMI/UCB0SCL, 12 P3.3/UCB0CLK/UCA0STE, 13 AVSS, 14 AVCC, 15 P4.0/TB0, 16 P4.1/TB1, 17 P4.2/TB2, 18 P4.3/TB0/A12, 19 P4.4/TB1/A13, 20 P4.5/TB2/A14, 21 P4.6/TBOUTH/A15, 22 P4.7/TBCLK, 23 P3.4/UCA0TXD/UCA0SIMO, 24 P3.5/UCA0RXD/UCA0SOMI, 25 P3.6/A6, 26 P3.7/A7, 27 TA1/VREF-/VeREF-/A3/P2.3, 28 TA2/VREF+/VeREF+/A4/P2.4, 29 P1.0/TACLK/ADC10CLK, 30 TA0/P1.1, 31 TA1/P1.2, 32 TA2/P1.3, 33 SMCLK/TCK/P1.4, 34 TA0/TMS/P1.5, 35 TA1/TDI/TCLK/P1.6, 36 TA2/TDO/TDI/P1.7, 37 TEST/SBWTCK, 38 DVCC, 39 DVCC, 40 ROSC/P2.5

## MSP430F2252IYFF
designator *  value MSP430F2252IYFF  Reference: U
16kB + 256B Flash, 512B RAM, BGA-49; ki_keywords: TI MSP430 16-bit mixed signal microcontroller; ki_fp_filters: Texas*DSBGA*3.33x3.488mm*Layout7x7*P0.4mm*; Footprint: Package_BGA:Texas_DSBGA-49_3.33x3.488mm_Layout7x7_P0.4mm; Datasheet: http://www.ti.com/lit/ds/symlink/msp430f2252.pdf; Description_: 16kB + 256B Flash, 512B RAM, BGA-49
pins: A1 XOUT/P2.7, A2 XIN/P2.6, A3 DVSS, A4 ACLK/A0/P2.0, A5 TA0/A2/P2.2, A6 P3.1/UCB0SIMO/UCB0SDA, A7 P3.2/UCB0SOMI/UCB0SCL, B1 DVSS, B2 DVSS, B3 ~{{RST}/NMI/SBWTDIO}, B4 TAINCLK/SMCLK/A1/P2.1, B5 P3.0/UCB0STE/UCA0CLK/A5, B6 P3.3/UCB0CLK/UCA0STE, B7 AVSS, C1 DVCC, C2 ROSC/P2.5, C3 DVSS, C4 DVSS, C5 AVSS, C6 AVCC, C7 AVCC, D1 SBWTCK/TEST, D2 TA2/TDO/TDI/P1.7, D3 DVCC, D4 DVCC, D5 AVCC, D6 P4.0/TB0, D7 P4.1/TB1, E1 TA0/TMS/P1.5, E2 TA1/P1.2, E3 TA1/TDI/TCLK/P1.6, E4 DVCC, E5 DVCC, E6 P4.2/TB2, E7 P4.3/TB0/A12, F1 SMCLK/TCK/P1.4, F2 TACLK/ADC10CLK/P1.0, F3 TA1/VREF-/VeREF-/A3/P2.3, F4 P3.6/A6, F5 P4.7/TBCLK, F6 P4.5/TB2/A14, F7 P4.4/TB1/A13, G1 TA2/P1.3, G2 TA0/P1.1, G3 TA2/VREF+/VeREF+/A4/P2.4, G4 P3.7/A7, G5 P3.5/UCA0RXD/UCA0SOMI, G6 P3.4/UCA0TXD/UCA0SIMO, G7 P4.6/TBOUTH/A15

## MSP430F2254IDA
designator *  value MSP430F2254IDA  Reference: U
16kB + 256B Flash, 512B RAM, TSSOP-38; ki_keywords: TI MSP430 16-bit mixed signal microcontroller; ki_fp_filters: TSSOP*6.1x12.5mm*P0.65mm*; Footprint: Package_SO:TSSOP-38_6.1x12.5mm_P0.65mm; Datasheet: http://www.ti.com/lit/ds/symlink/msp430f2254.pdf; Description_: 16kB + 256B Flash, 512B RAM, TSSOP-38
pins: 1 SBWTCK/TEST, 2 DVCC, 3 Rosc/P2.5, 4 DVSS, 5 XOUT/P2.7, 6 XIN/P2.6, 7 ~{{RST}/NMI/SBWTDIO}, 8 ACLK/A0/OA0I0/P2.0, 9 TAINCLK/SMCLK/A1/OA0O/P2.1, 10 TA0/A2/OA0I1/P2.2, 11 P3.0/UCB0STE/UCA0CLK/A5, 12 P3.1/UCB0SIMO/UCB0SDA, 13 P3.2/UCB0SOMI/UCB0SCL, 14 P3.3/UCB0CLK/UCA0STE, 15 AVSS, 16 AVCC, 17 P4.0/TB0, 18 P4.1/TB1, 19 P4.2/TB2, 20 P4.3/TB0/A12/OA0O, 21 P4.4/TB1/A13/OA1O, 22 P4.5/TB2/A14/OA0I3, 23 P4.6/TBOUTH/A15/OA1I3, 24 P4.7/TBCLK, 25 P3.4/UCA0TXD/UCA0SIMO, 26 P3.5/UCA0RXD/UCA0SOMI, 27 P3.6/A6/OA0I2, 28 P3.7/A7/OA1I2, 29 TA1/A3/VREF-/VeREF-/OA1I1/OA1O/P2.3, 30 TA2/A4/VREF+/VeREF+/OA1I0/P2.4, 31 TACLK/ADC10CLK/P1.0, 32 TA0/P1.1, 33 TA1/P1.2, 34 TA2/P1.3, 35 SMCLK/TCK/P1.4, 36 TA0/TMS/P1.5, 37 TA1/TDI/P1.6, 38 TA2/TDI/TDO/P1.7

## MSP430F2254IRHA
designator *  value MSP430F2254IRHA  Reference: U
16kB + 256B Flash, 512B RAM, QFN-40; ki_keywords: TI MSP430 16-bit mixed signal microcontroller; ki_fp_filters: Texas*RHA0040B*; Footprint: Package_DFN_QFN:Texas_RHA0040B_VQFN-40-1EP_6x6mm_P0.5mm_EP4.15x4.15mm; Datasheet: http://www.ti.com/lit/ds/symlink/msp430f2254.pdf; Description_: 16kB + 256B Flash, 512B RAM, QFN-40
pins: 1 DVSS, 2 XOUT/P2.7, 3 XIN/P2.6, 4 DVSS, 5 ~{{RST}/NMI/SBWTDIO}, 6 ACLK/A0/OA0I0/P2.0, 7 TAINCLK/SMCLK/A1/OA0O/P2.1, 8 TA0/A2/OA0I1/P2.2, 9 P3.0/UCB0STE/UCA0CLK/A5, 10 P3.1/UCB0SIMO/UCB0SDA, 11 P3.2/UCB0SOMI/UCB0SCL, 12 P3.3/UCB0CLK/UCA0STE, 13 AVSS, 14 AVCC, 15 P4.0/TB0, 16 P4.1/TB1, 17 P4.2/TB2, 18 P4.3/TB0/A12/OA0O, 19 P4.4/TB1/A13/OA1O, 20 P4.5/TB2/A14/OA0I3, 21 P4.6/TBOUTH/A15/OA1I3, 22 P4.7/TBCLK, 23 P3.4/UCA0TXD/UCA0SIMO, 24 P3.5/UCA0RXD/UCA0SOMI, 25 P3.6/A6/OA0I2, 26 P3.7/A7/OA1I2, 27 TA1/A3/VREF-/VeREF-/OA1I1/OA1O/P2.3, 28 TA2/A4/VREF+/VeREF+/OA1I0/P2.4, 29 TACLK/ADC10CLK/P1.0, 30 TA0/P1.1, 31 TA1/P1.2, 32 TA2/P1.3, 33 SMCLK/TCK/P1.4, 34 TA0/TMS/P1.5, 35 TA1/TDI/P1.6, 36 TA2/TDI/TDO/P1.7, 37 SBWTCK/TEST, 38 DVCC, 39 DVCC, 40 Rosc/P2.5

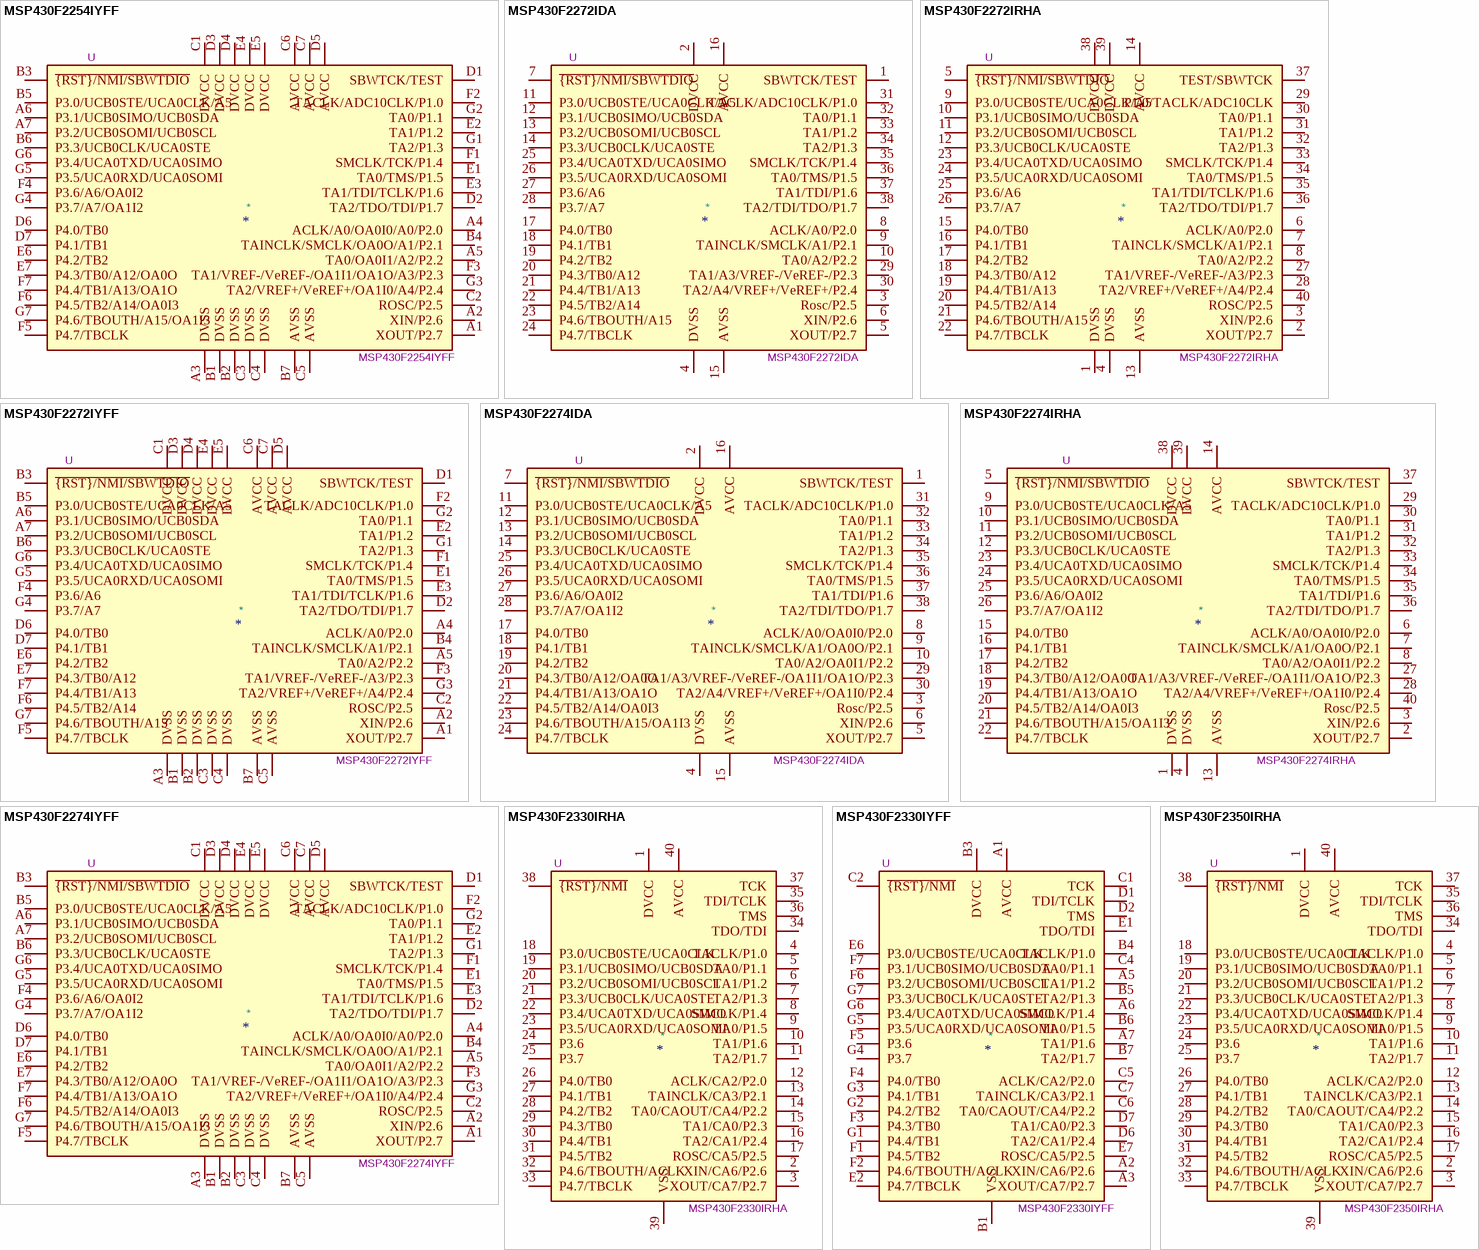
[diagram p6: symbols MSP430F2254IYFF to MSP430F2350IRHA]

## MSP430F2254IYFF
designator *  value MSP430F2254IYFF  Reference: U
16kB + 256B Flash, 512B RAM, BGA-49; ki_keywords: TI MSP430 16-bit mixed signal microcontroller; ki_fp_filters: Texas*DSBGA*3.33x3.488mm*Layout7x7*P0.4mm*; Footprint: Package_BGA:Texas_DSBGA-49_3.33x3.488mm_Layout7x7_P0.4mm; Datasheet: http://www.ti.com/lit/ds/symlink/msp430f2254.pdf; Description_: 16kB + 256B Flash, 512B RAM, BGA-49
pins: A1 XOUT/P2.7, A2 XIN/P2.6, A3 DVSS, A4 ACLK/A0/OA0I0/A0/P2.0, A5 TA0/OA0I1/A2/P2.2, A6 P3.1/UCB0SIMO/UCB0SDA, A7 P3.2/UCB0SOMI/UCB0SCL, B1 DVSS, B2 DVSS, B3 ~{{RST}/NMI/SBWTDIO}, B4 TAINCLK/SMCLK/OA0O/A1/P2.1, B5 P3.0/UCB0STE/UCA0CLK/A5, B6 P3.3/UCB0CLK/UCA0STE, B7 AVSS, C1 DVCC, C2 ROSC/P2.5, C3 DVSS, C4 DVSS, C5 AVSS, C6 AVCC, C7 AVCC, D1 SBWTCK/TEST, D2 TA2/TDO/TDI/P1.7, D3 DVCC, D4 DVCC, D5 AVCC, D6 P4.0/TB0, D7 P4.1/TB1, E1 TA0/TMS/P1.5, E2 TA1/P1.2, E3 TA1/TDI/TCLK/P1.6, E4 DVCC, E5 DVCC, E6 P4.2/TB2, E7 P4.3/TB0/A12/OA0O, F1 SMCLK/TCK/P1.4, F2 TACLK/ADC10CLK/P1.0, F3 TA1/VREF-/VeREF-/OA1I1/OA1O/A3/P2.3, F4 P3.6/A6/OA0I2, F5 P4.7/TBCLK, F6 P4.5/TB2/A14/OA0I3, F7 P4.4/TB1/A13/OA1O, G1 TA2/P1.3, G2 TA0/P1.1, G3 TA2/VREF+/VeREF+/OA1I0/A4/P2.4, G4 P3.7/A7/OA1I2, G5 P3.5/UCA0RXD/UCA0SOMI, G6 P3.4/UCA0TXD/UCA0SIMO, G7 P4.6/TBOUTH/A15/OA1I3

## MSP430F2272IDA
designator *  value MSP430F2272IDA  Reference: U
32kB + 256B Flash, 1kB RAM, TSSOP-38; ki_keywords: TI MSP430 16-bit mixed signal microcontroller; ki_fp_filters: TSSOP*6.1x12.5mm*P0.65mm*; Footprint: Package_SO:TSSOP-38_6.1x12.5mm_P0.65mm; Datasheet: http://www.ti.com/lit/ds/symlink/msp430f2272.pdf; Description_: 32kB + 256B Flash, 1kB RAM, TSSOP-38
pins: 1 SBWTCK/TEST, 2 DVCC, 3 Rosc/P2.5, 4 DVSS, 5 XOUT/P2.7, 6 XIN/P2.6, 7 ~{{RST}/NMI/SBWTDIO}, 8 ACLK/A0/P2.0, 9 TAINCLK/SMCLK/A1/P2.1, 10 TA0/A2/P2.2, 11 P3.0/UCB0STE/UCA0CLK/A5, 12 P3.1/UCB0SIMO/UCB0SDA, 13 P3.2/UCB0SOMI/UCB0SCL, 14 P3.3/UCB0CLK/UCA0STE, 15 AVSS, 16 AVCC, 17 P4.0/TB0, 18 P4.1/TB1, 19 P4.2/TB2, 20 P4.3/TB0/A12, 21 P4.4/TB1/A13, 22 P4.5/TB2/A14, 23 P4.6/TBOUTH/A15, 24 P4.7/TBCLK, 25 P3.4/UCA0TXD/UCA0SIMO, 26 P3.5/UCA0RXD/UCA0SOMI, 27 P3.6/A6, 28 P3.7/A7, 29 TA1/A3/VREF-/VeREF-/P2.3, 30 TA2/A4/VREF+/VeREF+/P2.4, 31 TACLK/ADC10CLK/P1.0, 32 TA0/P1.1, 33 TA1/P1.2, 34 TA2/P1.3, 35 SMCLK/TCK/P1.4, 36 TA0/TMS/P1.5, 37 TA1/TDI/P1.6, 38 TA2/TDI/TDO/P1.7

## MSP430F2272IRHA
designator *  value MSP430F2272IRHA  Reference: U
32kB + 256B Flash, 1kB RAM, QFN-40; ki_keywords: TI MSP430 16-bit mixed signal microcontroller; ki_fp_filters: Texas*RHA0040B*; Footprint: Package_DFN_QFN:Texas_RHA0040B_VQFN-40-1EP_6x6mm_P0.5mm_EP4.15x4.15mm; Datasheet: http://www.ti.com/lit/ds/symlink/msp430f2272.pdf; Description_: 32kB + 256B Flash, 1kB RAM, QFN-40
pins: 1 DVSS, 2 XOUT/P2.7, 3 XIN/P2.6, 4 DVSS, 5 ~{{RST}/NMI/SBWTDIO}, 6 ACLK/A0/P2.0, 7 TAINCLK/SMCLK/A1/P2.1, 8 TA0/A2/P2.2, 9 P3.0/UCB0STE/UCA0CLK/A5, 10 P3.1/UCB0SIMO/UCB0SDA, 11 P3.2/UCB0SOMI/UCB0SCL, 12 P3.3/UCB0CLK/UCA0STE, 13 AVSS, 14 AVCC, 15 P4.0/TB0, 16 P4.1/TB1, 17 P4.2/TB2, 18 P4.3/TB0/A12, 19 P4.4/TB1/A13, 20 P4.5/TB2/A14, 21 P4.6/TBOUTH/A15, 22 P4.7/TBCLK, 23 P3.4/UCA0TXD/UCA0SIMO, 24 P3.5/UCA0RXD/UCA0SOMI, 25 P3.6/A6, 26 P3.7/A7, 27 TA1/VREF-/VeREF-/A3/P2.3, 28 TA2/VREF+/VeREF+/A4/P2.4, 29 P1.0/TACLK/ADC10CLK, 30 TA0/P1.1, 31 TA1/P1.2, 32 TA2/P1.3, 33 SMCLK/TCK/P1.4, 34 TA0/TMS/P1.5, 35 TA1/TDI/TCLK/P1.6, 36 TA2/TDO/TDI/P1.7, 37 TEST/SBWTCK, 38 DVCC, 39 DVCC, 40 ROSC/P2.5

## MSP430F2272IYFF
designator *  value MSP430F2272IYFF  Reference: U
32kB + 256B Flash, 1kB RAM, BGA-49; ki_keywords: TI MSP430 16-bit mixed signal microcontroller; ki_fp_filters: Texas*DSBGA*3.33x3.488mm*Layout7x7*P0.4mm*; Footprint: Package_BGA:Texas_DSBGA-49_3.33x3.488mm_Layout7x7_P0.4mm; Datasheet: http://www.ti.com/lit/ds/symlink/msp430f2272.pdf; Description_: 32kB + 256B Flash, 1kB RAM, BGA-49
pins: A1 XOUT/P2.7, A2 XIN/P2.6, A3 DVSS, A4 ACLK/A0/P2.0, A5 TA0/A2/P2.2, A6 P3.1/UCB0SIMO/UCB0SDA, A7 P3.2/UCB0SOMI/UCB0SCL, B1 DVSS, B2 DVSS, B3 ~{{RST}/NMI/SBWTDIO}, B4 TAINCLK/SMCLK/A1/P2.1, B5 P3.0/UCB0STE/UCA0CLK/A5, B6 P3.3/UCB0CLK/UCA0STE, B7 AVSS, C1 DVCC, C2 ROSC/P2.5, C3 DVSS, C4 DVSS, C5 AVSS, C6 AVCC, C7 AVCC, D1 SBWTCK/TEST, D2 TA2/TDO/TDI/P1.7, D3 DVCC, D4 DVCC, D5 AVCC, D6 P4.0/TB0, D7 P4.1/TB1, E1 TA0/TMS/P1.5, E2 TA1/P1.2, E3 TA1/TDI/TCLK/P1.6, E4 DVCC, E5 DVCC, E6 P4.2/TB2, E7 P4.3/TB0/A12, F1 SMCLK/TCK/P1.4, F2 TACLK/ADC10CLK/P1.0, F3 TA1/VREF-/VeREF-/A3/P2.3, F4 P3.6/A6, F5 P4.7/TBCLK, F6 P4.5/TB2/A14, F7 P4.4/TB1/A13, G1 TA2/P1.3, G2 TA0/P1.1, G3 TA2/VREF+/VeREF+/A4/P2.4, G4 P3.7/A7, G5 P3.5/UCA0RXD/UCA0SOMI, G6 P3.4/UCA0TXD/UCA0SIMO, G7 P4.6/TBOUTH/A15

## MSP430F2274IDA
designator *  value MSP430F2274IDA  Reference: U
32kB + 256B Flash, 1kB RAM, TSSOP-38; ki_keywords: TI MSP430 16-bit mixed signal microcontroller; ki_fp_filters: TSSOP*6.1x12.5mm*P0.65mm*; Footprint: Package_SO:TSSOP-38_6.1x12.5mm_P0.65mm; Datasheet: http://www.ti.com/lit/ds/symlink/msp430f2274.pdf; Description_: 32kB + 256B Flash, 1kB RAM, TSSOP-38
pins: 1 SBWTCK/TEST, 2 DVCC, 3 Rosc/P2.5, 4 DVSS, 5 XOUT/P2.7, 6 XIN/P2.6, 7 ~{{RST}/NMI/SBWTDIO}, 8 ACLK/A0/OA0I0/P2.0, 9 TAINCLK/SMCLK/A1/OA0O/P2.1, 10 TA0/A2/OA0I1/P2.2, 11 P3.0/UCB0STE/UCA0CLK/A5, 12 P3.1/UCB0SIMO/UCB0SDA, 13 P3.2/UCB0SOMI/UCB0SCL, 14 P3.3/UCB0CLK/UCA0STE, 15 AVSS, 16 AVCC, 17 P4.0/TB0, 18 P4.1/TB1, 19 P4.2/TB2, 20 P4.3/TB0/A12/OA0O, 21 P4.4/TB1/A13/OA1O, 22 P4.5/TB2/A14/OA0I3, 23 P4.6/TBOUTH/A15/OA1I3, 24 P4.7/TBCLK, 25 P3.4/UCA0TXD/UCA0SIMO, 26 P3.5/UCA0RXD/UCA0SOMI, 27 P3.6/A6/OA0I2, 28 P3.7/A7/OA1I2, 29 TA1/A3/VREF-/VeREF-/OA1I1/OA1O/P2.3, 30 TA2/A4/VREF+/VeREF+/OA1I0/P2.4, 31 TACLK/ADC10CLK/P1.0, 32 TA0/P1.1, 33 TA1/P1.2, 34 TA2/P1.3, 35 SMCLK/TCK/P1.4, 36 TA0/TMS/P1.5, 37 TA1/TDI/P1.6, 38 TA2/TDI/TDO/P1.7

## MSP430F2274IRHA
designator *  value MSP430F2274IRHA  Reference: U
32kB + 256B Flash, 1kB RAM, QFN-40; ki_keywords: TI MSP430 16-bit mixed signal microcontroller; ki_fp_filters: Texas*RHA0040B*; Footprint: Package_DFN_QFN:Texas_RHA0040B_VQFN-40-1EP_6x6mm_P0.5mm_EP4.15x4.15mm; Datasheet: http://www.ti.com/lit/ds/symlink/msp430f2274.pdf; Description_: 32kB + 256B Flash, 1kB RAM, QFN-40
pins: 1 DVSS, 2 XOUT/P2.7, 3 XIN/P2.6, 4 DVSS, 5 ~{{RST}/NMI/SBWTDIO}, 6 ACLK/A0/OA0I0/P2.0, 7 TAINCLK/SMCLK/A1/OA0O/P2.1, 8 TA0/A2/OA0I1/P2.2, 9 P3.0/UCB0STE/UCA0CLK/A5, 10 P3.1/UCB0SIMO/UCB0SDA, 11 P3.2/UCB0SOMI/UCB0SCL, 12 P3.3/UCB0CLK/UCA0STE, 13 AVSS, 14 AVCC, 15 P4.0/TB0, 16 P4.1/TB1, 17 P4.2/TB2, 18 P4.3/TB0/A12/OA0O, 19 P4.4/TB1/A13/OA1O, 20 P4.5/TB2/A14/OA0I3, 21 P4.6/TBOUTH/A15/OA1I3, 22 P4.7/TBCLK, 23 P3.4/UCA0TXD/UCA0SIMO, 24 P3.5/UCA0RXD/UCA0SOMI, 25 P3.6/A6/OA0I2, 26 P3.7/A7/OA1I2, 27 TA1/A3/VREF-/VeREF-/OA1I1/OA1O/P2.3, 28 TA2/A4/VREF+/VeREF+/OA1I0/P2.4, 29 TACLK/ADC10CLK/P1.0, 30 TA0/P1.1, 31 TA1/P1.2, 32 TA2/P1.3, 33 SMCLK/TCK/P1.4, 34 TA0/TMS/P1.5, 35 TA1/TDI/P1.6, 36 TA2/TDI/TDO/P1.7, 37 SBWTCK/TEST, 38 DVCC, 39 DVCC, 40 Rosc/P2.5

## MSP430F2274IYFF
designator *  value MSP430F2274IYFF  Reference: U
32kB + 256B Flash, 1kB RAM, BGA-49; ki_keywords: TI MSP430 16-bit mixed signal microcontroller; ki_fp_filters: Texas*DSBGA*3.33x3.488mm*Layout7x7*P0.4mm*; Footprint: Package_BGA:Texas_DSBGA-49_3.33x3.488mm_Layout7x7_P0.4mm; Datasheet: http://www.ti.com/lit/ds/symlink/msp430f2274.pdf; Description_: 32kB + 256B Flash, 1kB RAM, BGA-49
pins: A1 XOUT/P2.7, A2 XIN/P2.6, A3 DVSS, A4 ACLK/A0/OA0I0/A0/P2.0, A5 TA0/OA0I1/A2/P2.2, A6 P3.1/UCB0SIMO/UCB0SDA, A7 P3.2/UCB0SOMI/UCB0SCL, B1 DVSS, B2 DVSS, B3 ~{{RST}/NMI/SBWTDIO}, B4 TAINCLK/SMCLK/OA0O/A1/P2.1, B5 P3.0/UCB0STE/UCA0CLK/A5, B6 P3.3/UCB0CLK/UCA0STE, B7 AVSS, C1 DVCC, C2 ROSC/P2.5, C3 DVSS, C4 DVSS, C5 AVSS, C6 AVCC, C7 AVCC, D1 SBWTCK/TEST, D2 TA2/TDO/TDI/P1.7, D3 DVCC, D4 DVCC, D5 AVCC, D6 P4.0/TB0, D7 P4.1/TB1, E1 TA0/TMS/P1.5, E2 TA1/P1.2, E3 TA1/TDI/TCLK/P1.6, E4 DVCC, E5 DVCC, E6 P4.2/TB2, E7 P4.3/TB0/A12/OA0O, F1 SMCLK/TCK/P1.4, F2 TACLK/ADC10CLK/P1.0, F3 TA1/VREF-/VeREF-/OA1I1/OA1O/A3/P2.3, F4 P3.6/A6/OA0I2, F5 P4.7/TBCLK, F6 P4.5/TB2/A14/OA0I3, F7 P4.4/TB1/A13/OA1O, G1 TA2/P1.3, G2 TA0/P1.1, G3 TA2/VREF+/VeREF+/OA1I0/A4/P2.4, G4 P3.7/A7/OA1I2, G5 P3.5/UCA0RXD/UCA0SOMI, G6 P3.4/UCA0TXD/UCA0SIMO, G7 P4.6/TBOUTH/A15/OA1I3

## MSP430F2330IRHA
designator *  value MSP430F2330IRHA  Reference: U
8kB + 256B Flash, 1kB RAM, QFN-40; ki_keywords: TI MSP430 16-bit mixed signal microcontroller; ki_fp_filters: Texas*RHA0040B*; Footprint: Package_DFN_QFN:Texas_RHA0040B_VQFN-40-1EP_6x6mm_P0.5mm_EP4.15x4.15mm; Datasheet: http://www.ti.com/lit/ds/symlink/msp430f2330.pdf; Description_: 8kB + 256B Flash, 1kB RAM, QFN-40
pins: 1 DVCC, 2 XIN/CA6/P2.6, 3 XOUT/CA7/P2.7, 4 TACLK/P1.0, 5 TA0/P1.1, 6 TA1/P1.2, 7 TA2/P1.3, 8 SMCLK/P1.4, 9 TA0/P1.5, 10 TA1/P1.6, 11 TA2/P1.7, 12 ACLK/CA2/P2.0, 13 TAINCLK/CA3/P2.1, 14 TA0/CAOUT/CA4/P2.2, 15 TA1/CA0/P2.3, 16 TA2/CA1/P2.4, 17 ROSC/CA5/P2.5, 18 P3.0/UCB0STE/UCA0CLK, 19 P3.1/UCB0SIMO/UCB0SDA, 20 P3.2/UCB0SOMI/UCB0SCL, 21 P3.3/UCB0CLK/UCA0STE, 22 P3.4/UCA0TXD/UCA0SIMO, 23 P3.5/UCA0RXD/UCA0SOMI, 24 P3.6, 25 P3.7, 26 P4.0/TB0, 27 P4.1/TB1, 28 P4.2/TB2, 29 P4.3/TB0, 30 P4.4/TB1, 31 P4.5/TB2, 32 P4.6/TBOUTH/ACLK, 33 P4.7/TBCLK, 34 TDO/TDI, 35 TDI/TCLK, 36 TMS, 37 TCK, 38 ~{{RST}/NMI}, 39 VSS, 40 AVCC

## MSP430F2330IYFF
designator *  value MSP430F2330IYFF  Reference: U
8kB + 256B Flash, 1kB RAM, BGA-49; ki_keywords: TI MSP430 16-bit mixed signal microcontroller; ki_fp_filters: Texas*DSBGA*3.33x3.488mm*Layout7x7*P0.4mm*; Footprint: Package_BGA:Texas_DSBGA-49_3.33x3.488mm_Layout7x7_P0.4mm; Datasheet: http://www.ti.com/lit/ds/symlink/msp430f2330.pdf; Description_: 8kB + 256B Flash, 1kB RAM, BGA-49
pins: A1 AVCC, A2 XIN/CA6/P2.6, A3 XOUT/CA7/P2.7, A5 TA1/P1.2, A6 SMCLK/P1.4, A7 TA1/P1.6, B1 VSS, B3 DVCC, B4 TACLK/P1.0, B5 TA2/P1.3, B6 TA0/P1.5, B7 TA2/P1.7, C1 TCK, C2 ~{{RST}/NMI}, C4 TA0/P1.1, C5 ACLK/CA2/P2.0, C6 TA0/CAOUT/CA4/P2.2, C7 TAINCLK/CA3/P2.1, D1 TDI/TCLK, D2 TMS, D6 TA2/CA1/P2.4, D7 TA1/CA0/P2.3, E1 TDO/TDI, E2 P4.7/TBCLK, E6 P3.0/UCB0STE/UCA0CLK, E7 ROSC/CA5/P2.5, F1 P4.5/TB2, F2 P4.6/TBOUTH/ACLK, F3 P4.3/TB0, F4 P4.0/TB0, F5 P3.6, F6 P3.2/UCB0SOMI/UCB0SCL, F7 P3.1/UCB0SIMO/UCB0SDA, G1 P4.4/TB1, G2 P4.2/TB2, G3 P4.1/TB1, G4 P3.7, G5 P3.5/UCA0RXD/UCA0SOMI, G6 P3.4/UCA0TXD/UCA0SIMO, G7 P3.3/UCB0CLK/UCA0STE

## MSP430F2350IRHA
designator *  value MSP430F2350IRHA  Reference: U
16kB + 256B Flash, 2kB RAM, QFN-40; ki_keywords: TI MSP430 16-bit mixed signal microcontroller; ki_fp_filters: Texas*RHA0040B*; Footprint: Package_DFN_QFN:Texas_RHA0040B_VQFN-40-1EP_6x6mm_P0.5mm_EP4.15x4.15mm; Datasheet: http://www.ti.com/lit/ds/symlink/msp430f2350.pdf; Description_: 16kB + 256B Flash, 2kB RAM, QFN-40
pins: 1 DVCC, 2 XIN/CA6/P2.6, 3 XOUT/CA7/P2.7, 4 TACLK/P1.0, 5 TA0/P1.1, 6 TA1/P1.2, 7 TA2/P1.3, 8 SMCLK/P1.4, 9 TA0/P1.5, 10 TA1/P1.6, 11 TA2/P1.7, 12 ACLK/CA2/P2.0, 13 TAINCLK/CA3/P2.1, 14 TA0/CAOUT/CA4/P2.2, 15 TA1/CA0/P2.3, 16 TA2/CA1/P2.4, 17 ROSC/CA5/P2.5, 18 P3.0/UCB0STE/UCA0CLK, 19 P3.1/UCB0SIMO/UCB0SDA, 20 P3.2/UCB0SOMI/UCB0SCL, 21 P3.3/UCB0CLK/UCA0STE, 22 P3.4/UCA0TXD/UCA0SIMO, 23 P3.5/UCA0RXD/UCA0SOMI, 24 P3.6, 25 P3.7, 26 P4.0/TB0, 27 P4.1/TB1, 28 P4.2/TB2, 29 P4.3/TB0, 30 P4.4/TB1, 31 P4.5/TB2, 32 P4.6/TBOUTH/ACLK, 33 P4.7/TBCLK, 34 TDO/TDI, 35 TDI/TCLK, 36 TMS, 37 TCK, 38 ~{{RST}/NMI}, 39 VSS, 40 AVCC

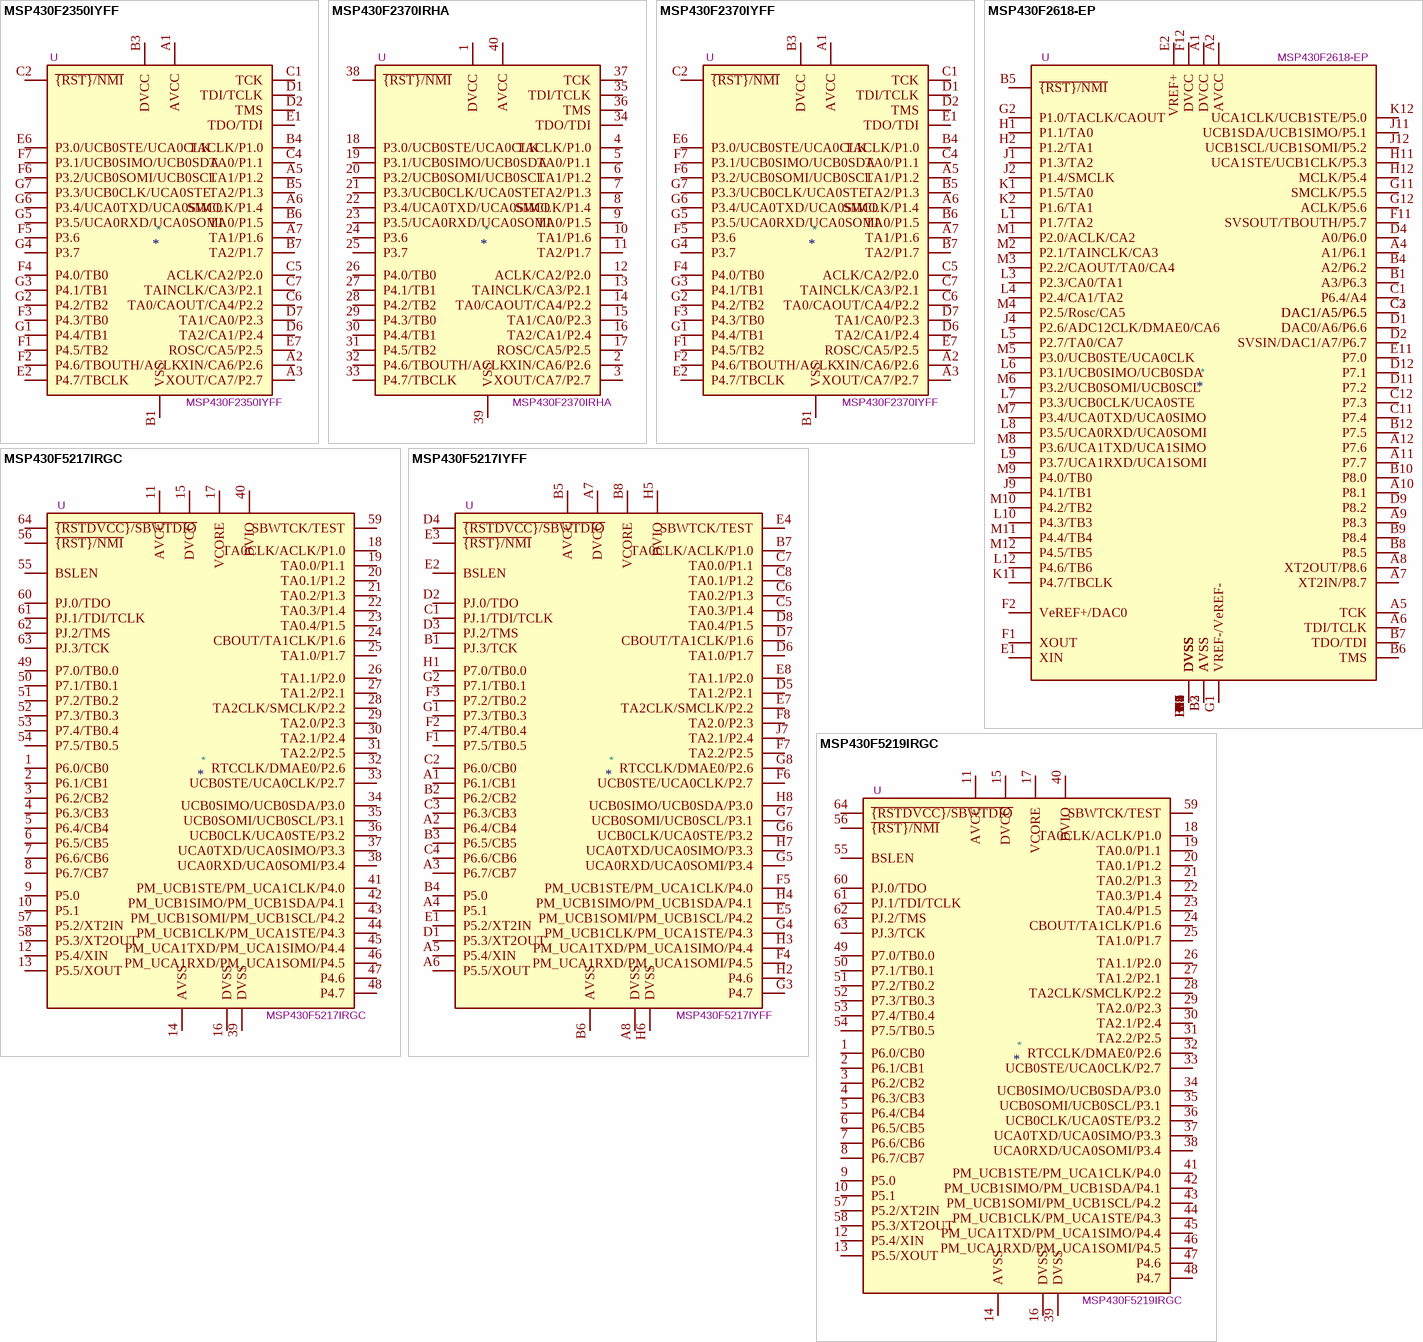
[diagram p7: symbols MSP430F2350IYFF to MSP430F5219IRGC]

## MSP430F2350IYFF
designator *  value MSP430F2350IYFF  Reference: U
16kB + 256B Flash, 2kB RAM, BGA-49; ki_keywords: TI MSP430 16-bit mixed signal microcontroller; ki_fp_filters: Texas*DSBGA*3.33x3.488mm*Layout7x7*P0.4mm*; Footprint: Package_BGA:Texas_DSBGA-49_3.33x3.488mm_Layout7x7_P0.4mm; Datasheet: http://www.ti.com/lit/ds/symlink/msp430f2350.pdf; Description_: 16kB + 256B Flash, 2kB RAM, BGA-49
pins: A1 AVCC, A2 XIN/CA6/P2.6, A3 XOUT/CA7/P2.7, A5 TA1/P1.2, A6 SMCLK/P1.4, A7 TA1/P1.6, B1 VSS, B3 DVCC, B4 TACLK/P1.0, B5 TA2/P1.3, B6 TA0/P1.5, B7 TA2/P1.7, C1 TCK, C2 ~{{RST}/NMI}, C4 TA0/P1.1, C5 ACLK/CA2/P2.0, C6 TA0/CAOUT/CA4/P2.2, C7 TAINCLK/CA3/P2.1, D1 TDI/TCLK, D2 TMS, D6 TA2/CA1/P2.4, D7 TA1/CA0/P2.3, E1 TDO/TDI, E2 P4.7/TBCLK, E6 P3.0/UCB0STE/UCA0CLK, E7 ROSC/CA5/P2.5, F1 P4.5/TB2, F2 P4.6/TBOUTH/ACLK, F3 P4.3/TB0, F4 P4.0/TB0, F5 P3.6, F6 P3.2/UCB0SOMI/UCB0SCL, F7 P3.1/UCB0SIMO/UCB0SDA, G1 P4.4/TB1, G2 P4.2/TB2, G3 P4.1/TB1, G4 P3.7, G5 P3.5/UCA0RXD/UCA0SOMI, G6 P3.4/UCA0TXD/UCA0SIMO, G7 P3.3/UCB0CLK/UCA0STE

## MSP430F2370IRHA
designator *  value MSP430F2370IRHA  Reference: U
32kB + 256B Flash, 2kB RAM, QFN-40; ki_keywords: TI MSP430 16-bit mixed signal microcontroller; ki_fp_filters: Texas*RHA0040B*; Footprint: Package_DFN_QFN:Texas_RHA0040B_VQFN-40-1EP_6x6mm_P0.5mm_EP4.15x4.15mm; Datasheet: http://www.ti.com/lit/ds/symlink/msp430f2370.pdf; Description_: 32kB + 256B Flash, 2kB RAM, QFN-40
pins: 1 DVCC, 2 XIN/CA6/P2.6, 3 XOUT/CA7/P2.7, 4 TACLK/P1.0, 5 TA0/P1.1, 6 TA1/P1.2, 7 TA2/P1.3, 8 SMCLK/P1.4, 9 TA0/P1.5, 10 TA1/P1.6, 11 TA2/P1.7, 12 ACLK/CA2/P2.0, 13 TAINCLK/CA3/P2.1, 14 TA0/CAOUT/CA4/P2.2, 15 TA1/CA0/P2.3, 16 TA2/CA1/P2.4, 17 ROSC/CA5/P2.5, 18 P3.0/UCB0STE/UCA0CLK, 19 P3.1/UCB0SIMO/UCB0SDA, 20 P3.2/UCB0SOMI/UCB0SCL, 21 P3.3/UCB0CLK/UCA0STE, 22 P3.4/UCA0TXD/UCA0SIMO, 23 P3.5/UCA0RXD/UCA0SOMI, 24 P3.6, 25 P3.7, 26 P4.0/TB0, 27 P4.1/TB1, 28 P4.2/TB2, 29 P4.3/TB0, 30 P4.4/TB1, 31 P4.5/TB2, 32 P4.6/TBOUTH/ACLK, 33 P4.7/TBCLK, 34 TDO/TDI, 35 TDI/TCLK, 36 TMS, 37 TCK, 38 ~{{RST}/NMI}, 39 VSS, 40 AVCC

## MSP430F2370IYFF
designator *  value MSP430F2370IYFF  Reference: U
32kB + 256B Flash, 2kB RAM, BGA-49; ki_keywords: TI MSP430 16-bit mixed signal microcontroller; ki_fp_filters: Texas*DSBGA*3.33x3.488mm*Layout7x7*P0.4mm*; Footprint: Package_BGA:Texas_DSBGA-49_3.33x3.488mm_Layout7x7_P0.4mm; Datasheet: http://www.ti.com/lit/ds/symlink/msp430f2370.pdf; Description_: 32kB + 256B Flash, 2kB RAM, BGA-49
pins: A1 AVCC, A2 XIN/CA6/P2.6, A3 XOUT/CA7/P2.7, A5 TA1/P1.2, A6 SMCLK/P1.4, A7 TA1/P1.6, B1 VSS, B3 DVCC, B4 TACLK/P1.0, B5 TA2/P1.3, B6 TA0/P1.5, B7 TA2/P1.7, C1 TCK, C2 ~{{RST}/NMI}, C4 TA0/P1.1, C5 ACLK/CA2/P2.0, C6 TA0/CAOUT/CA4/P2.2, C7 TAINCLK/CA3/P2.1, D1 TDI/TCLK, D2 TMS, D6 TA2/CA1/P2.4, D7 TA1/CA0/P2.3, E1 TDO/TDI, E2 P4.7/TBCLK, E6 P3.0/UCB0STE/UCA0CLK, E7 ROSC/CA5/P2.5, F1 P4.5/TB2, F2 P4.6/TBOUTH/ACLK, F3 P4.3/TB0, F4 P4.0/TB0, F5 P3.6, F6 P3.2/UCB0SOMI/UCB0SCL, F7 P3.1/UCB0SIMO/UCB0SDA, G1 P4.4/TB1, G2 P4.2/TB2, G3 P4.1/TB1, G4 P3.7, G5 P3.5/UCA0RXD/UCA0SOMI, G6 P3.4/UCA0TXD/UCA0SIMO, G7 P3.3/UCB0CLK/UCA0STE

## MSP430F2618-EP
designator *  value MSP430F2618-EP  Reference: U
116kB + 256B Flash, 8K RAM, 113-BGA; ki_keywords: TI MSP430 16-bit mixed signal microcontroller; ki_fp_filters: Texas*MicroStar*Junior*BGA*7x7mm*Layout12x12*P0.5mm*; Footprint: Package_BGA:Texas_MicroStar_Junior_BGA-113_7x7mm_Layout12x12_P0.5mm; Datasheet: http://www.ti.com/lit/ds/symlink/msp430f2618-ep.pdf; Description_: 116kB + 256B Flash, 8K RAM, 113-BGA
pins: A1 DVCC, A2 AVCC, A3 DVSS, A4 A1/P6.1, A5 TCK, A6 TDI/TCLK, A7 XT2IN/P8.7, A8 XT2OUT/P8.6, A9 P8.3, A10 P8.1, A11 P7.7, A12 P7.6, B1 A3/P6.3, B2 AVSS, B3 AVSS, B4 A2/P6.2, B5 ~{{RST}/NMI}, B6 TMS, B7 TDO/TDI, B8 P8.5, B9 P8.4, B10 P8.0, B11 DVSS, B12 P7.5, C1 P6.4/A4, C2 DAC1/A5/P6.5, C3 DAC1/A5/P6.5, C11 P7.4, C12 P7.3, D1 DAC0/A6/P6.6, D2 SVSIN/DAC1/A7/P6.7, D4 A0/P6.0, D5 DVSS, D6 DVSS, D7 DVSS, D8 DVSS, D9 P8.2, D11 P7.2, D12 P7.1, E1 XIN, E2 VREF+, E4 DVSS, E5 DVSS, E6 DVSS, E7 DVSS, E8 DVSS, E9 DVSS, E11 P7.0, E12 DVSS, F1 XOUT, F2 VeREF+/DAC0, F4 DVSS, F5 DVSS, F8 DVSS, F9 DVSS, F11 SVSOUT/TBOUTH/P5.7, F12 DVCC, G1 VREF-/VeREF-, G2 P1.0/TACLK/CAOUT, G4 DVSS, G5 DVSS, G8 DVSS, G9 DVSS, G11 SMCLK/P5.5, G12 ACLK/P5.6, H1 P1.1/TA0, H2 P1.2/TA1, H4 DVSS, H5 DVSS, H6 DVSS, H7 DVSS, H8 DVSS, H9 DVSS, H11 UCA1STE/UCB1CLK/P5.3, H12 MCLK/P5.4, J1 P1.3/TA2, J2 P1.4/SMCLK, J4 P2.6/ADC12CLK/DMAE0/CA6, J5 DVSS, J6 DVSS, J7 DVSS, J8 DVSS, J9 P4.1/TB1, J11 UCB1SDA/UCB1SIMO/P5.1, J12 UCB1SCL/UCB1SOMI/P5.2, K1 P1.5/TA0, K2 P1.6/TA1, K11 P4.7/TBCLK, K12 UCA1CLK/UCB1STE/P5.0, L1 P1.7/TA2, L2 DVSS, L3 P2.3/CA0/TA1, L4 P2.4/CA1/TA2, L5 P2.7/TA0/CA7, L6 P3.1/UCB0SIMO/UCB0SDA, L7 P3.3/UCB0CLK/UCA0STE, L8 P3.5/UCA0RXD/UCA0SOMI, L9 P3.7/UCA1RXD/UCA1SOMI, L10 P4.3/TB3, L11 DVSS, L12 P4.6/TB6, M1 P2.0/ACLK/CA2, M2 P2.1/TAINCLK/CA3, M3 P2.2/CAOUT/TA0/CA4, M4 P2.5/Rosc/CA5, M5 P3.0/UCB0STE/UCA0CLK, M6 P3.2/UCB0SOMI/UCB0SCL, M7 P3.4/UCA0TXD/UCA0SIMO, M8 P3.6/UCA1TXD/UCA1SIMO, M9 P4.0/TB0, M10 P4.2/TB2, M11 P4.4/TB4, M12 P4.5/TB5

## MSP430F5217IRGC
designator *  value MSP430F5217IRGC  Reference: U
64kB Flash, 8kB RAM, QFN-64; ki_keywords: TI MSP430 16-bit mixed signal microcontroller; ki_fp_filters: Texas*RGC0064B*; Footprint: Package_DFN_QFN:Texas_RGC0064B_VQFN-64-1EP_9x9mm_P0.5mm_EP4.25x4.25mm; Datasheet: http://www.ti.com/lit/ds/symlink/msp430f5217.pdf; Description_: 64kB Flash, 8kB RAM, QFN-64
pins: 1 P6.0/CB0, 2 P6.1/CB1, 3 P6.2/CB2, 4 P6.3/CB3, 5 P6.4/CB4, 6 P6.5/CB5, 7 P6.6/CB6, 8 P6.7/CB7, 9 P5.0, 10 P5.1, 11 AVCC, 12 P5.4/XIN, 13 P5.5/XOUT, 14 AVSS, 15 DVCC, 16 DVSS, 17 VCORE, 18 TA0CLK/ACLK/P1.0, 19 TA0.0/P1.1, 20 TA0.1/P1.2, 21 TA0.2/P1.3, 22 TA0.3/P1.4, 23 TA0.4/P1.5, 24 CBOUT/TA1CLK/P1.6, 25 TA1.0/P1.7, 26 TA1.1/P2.0, 27 TA1.2/P2.1, 28 TA2CLK/SMCLK/P2.2, 29 TA2.0/P2.3, 30 TA2.1/P2.4, 31 TA2.2/P2.5, 32 RTCCLK/DMAE0/P2.6, 33 UCB0STE/UCA0CLK/P2.7, 34 UCB0SIMO/UCB0SDA/P3.0, 35 UCB0SOMI/UCB0SCL/P3.1, 36 UCB0CLK/UCA0STE/P3.2, 37 UCA0TXD/UCA0SIMO/P3.3, 38 UCA0RXD/UCA0SOMI/P3.4, 39 DVSS, 40 DVIO, 41 PM_UCB1STE/PM_UCA1CLK/P4.0, 42 PM_UCB1SIMO/PM_UCB1SDA/P4.1, 43 PM_UCB1SOMI/PM_UCB1SCL/P4.2, 44 PM_UCB1CLK/PM_UCA1STE/P4.3, 45 PM_UCA1TXD/PM_UCA1SIMO/P4.4, 46 PM_UCA1RXD/PM_UCA1SOMI/P4.5, 47 P4.6, 48 P4.7, 49 P7.0/TB0.0, 50 P7.1/TB0.1, 51 P7.2/TB0.2, 52 P7.3/TB0.3, 53 P7.4/TB0.4, 54 P7.5/TB0.5, 55 BSLEN, 56 ~{{RST}/NMI}, 57 P5.2/XT2IN, 58 P5.3/XT2OUT, 59 SBWTCK/TEST, 60 PJ.0/TDO, 61 PJ.1/TDI/TCLK, 62 PJ.2/TMS, 63 PJ.3/TCK, 64 ~{{RSTDVCC}/SBWTDIO}

## MSP430F5217IYFF
designator *  value MSP430F5217IYFF  Reference: U
64kB Flash, 8kB RAM, BGA-64; ki_keywords: TI MSP430 16-bit mixed signal microcontroller; ki_fp_filters: Texas*DSBGA*3.415x3.535mm*Layout8x8*P0.4mm*; Footprint: Package_BGA:Texas_DSBGA-64_3.415x3.535mm_Layout8x8_P0.4mm; Datasheet: http://www.ti.com/lit/ds/symlink/msp430f5217.pdf; Description_: 64kB Flash, 8kB RAM, BGA-64
pins: A1 P6.1/CB1, A2 P6.4/CB4, A3 P6.7/CB7, A4 P5.1, A5 P5.4/XIN, A6 P5.5/XOUT, A7 DVCC, A8 DVSS, B1 PJ.3/TCK, B2 P6.2/CB2, B3 P6.5/CB5, B4 P5.0, B5 AVCC, B6 AVSS, B7 TA0CLK/ACLK/P1.0, B8 VCORE, C1 PJ.1/TDI/TCLK, C2 P6.0/CB0, C3 P6.3/CB3, C4 P6.6/CB6, C5 TA0.3/P1.4, C6 TA0.2/P1.3, C7 TA0.0/P1.1, C8 TA0.1/P1.2, D1 P5.3/XT2OUT, D2 PJ.0/TDO, D3 PJ.2/TMS, D4 ~{{RSTDVCC}/SBWTDIO}, D5 TA1.2/P2.1, D6 TA1.0/P1.7, D7 CBOUT/TA1CLK/P1.6, D8 TA0.4/P1.5, E1 P5.2/XT2IN, E2 BSLEN, E3 ~{{RST}/NMI}, E4 SBWTCK/TEST, E5 PM_UCB1SOMI/PM_UCB1SCL/P4.2, E7 TA2CLK/SMCLK/P2.2, E8 TA1.1/P2.0, F1 P7.5/TB0.5, F2 P7.4/TB0.4, F3 P7.2/TB0.2, F4 PM_UCA1RXD/PM_UCA1SOMI/P4.5, F5 PM_UCB1STE/PM_UCA1CLK/P4.0, F6 UCB0STE/UCA0CLK/P2.7, F7 TA2.2/P2.5, F8 TA2.0/P2.3, G1 P7.3/TB0.3, G2 P7.1/TB0.1, G3 P4.7, G4 PM_UCB1CLK/PM_UCA1STE/P4.3, G5 UCA0RXD/UCA0SOMI/P3.4, G6 UCB0CLK/UCA0STE/P3.2, G7 UCB0SOMI/UCB0SCL/P3.1, G8 RTCCLK/DMAE0/P2.6, H1 P7.0/TB0.0, H2 P4.6, H3 PM_UCA1TXD/PM_UCA1SIMO/P4.4, H4 PM_UCB1SIMO/PM_UCB1SDA/P4.1, H5 DVIO, H6 DVSS, H7 UCA0TXD/UCA0SIMO/P3.3, H8 UCB0SIMO/UCB0SDA/P3.0, J7 TA2.1/P2.4

## MSP430F5219IRGC
designator *  value MSP430F5219IRGC  Reference: U
128kB Flash, 8kB RAM, QFN-64; ki_keywords: TI MSP430 16-bit mixed signal microcontroller; ki_fp_filters: Texas*RGC0064B*; Footprint: Package_DFN_QFN:Texas_RGC0064B_VQFN-64-1EP_9x9mm_P0.5mm_EP4.25x4.25mm; Datasheet: http://www.ti.com/lit/ds/symlink/msp430f5219.pdf; Description_: 128kB Flash, 8kB RAM, QFN-64
pins: 1 P6.0/CB0, 2 P6.1/CB1, 3 P6.2/CB2, 4 P6.3/CB3, 5 P6.4/CB4, 6 P6.5/CB5, 7 P6.6/CB6, 8 P6.7/CB7, 9 P5.0, 10 P5.1, 11 AVCC, 12 P5.4/XIN, 13 P5.5/XOUT, 14 AVSS, 15 DVCC, 16 DVSS, 17 VCORE, 18 TA0CLK/ACLK/P1.0, 19 TA0.0/P1.1, 20 TA0.1/P1.2, 21 TA0.2/P1.3, 22 TA0.3/P1.4, 23 TA0.4/P1.5, 24 CBOUT/TA1CLK/P1.6, 25 TA1.0/P1.7, 26 TA1.1/P2.0, 27 TA1.2/P2.1, 28 TA2CLK/SMCLK/P2.2, 29 TA2.0/P2.3, 30 TA2.1/P2.4, 31 TA2.2/P2.5, 32 RTCCLK/DMAE0/P2.6, 33 UCB0STE/UCA0CLK/P2.7, 34 UCB0SIMO/UCB0SDA/P3.0, 35 UCB0SOMI/UCB0SCL/P3.1, 36 UCB0CLK/UCA0STE/P3.2, 37 UCA0TXD/UCA0SIMO/P3.3, 38 UCA0RXD/UCA0SOMI/P3.4, 39 DVSS, 40 DVIO, 41 PM_UCB1STE/PM_UCA1CLK/P4.0, 42 PM_UCB1SIMO/PM_UCB1SDA/P4.1, 43 PM_UCB1SOMI/PM_UCB1SCL/P4.2, 44 PM_UCB1CLK/PM_UCA1STE/P4.3, 45 PM_UCA1TXD/PM_UCA1SIMO/P4.4, 46 PM_UCA1RXD/PM_UCA1SOMI/P4.5, 47 P4.6, 48 P4.7, 49 P7.0/TB0.0, 50 P7.1/TB0.1, 51 P7.2/TB0.2, 52 P7.3/TB0.3, 53 P7.4/TB0.4, 54 P7.5/TB0.5, 55 BSLEN, 56 ~{{RST}/NMI}, 57 P5.2/XT2IN, 58 P5.3/XT2OUT, 59 SBWTCK/TEST, 60 PJ.0/TDO, 61 PJ.1/TDI/TCLK, 62 PJ.2/TMS, 63 PJ.3/TCK, 64 ~{{RSTDVCC}/SBWTDIO}

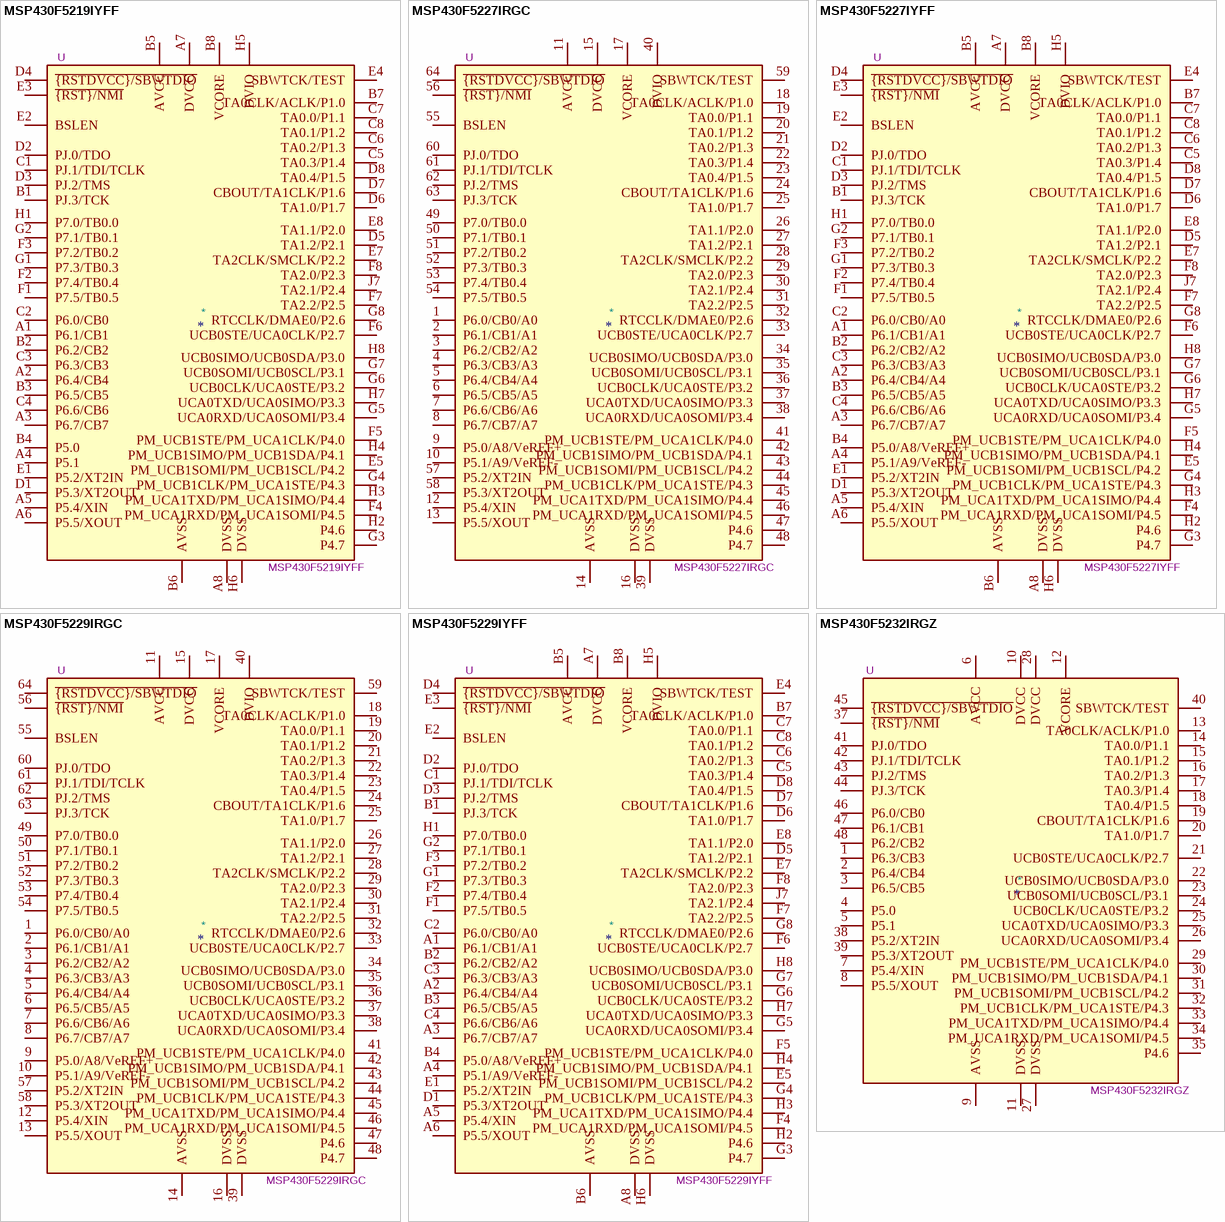
[diagram p8: symbols MSP430F5219IYFF to MSP430F5232IRGZ]

## MSP430F5219IYFF
designator *  value MSP430F5219IYFF  Reference: U
128kB Flash, 8kB RAM, BGA-64; ki_keywords: TI MSP430 16-bit mixed signal microcontroller; ki_fp_filters: Texas*DSBGA*3.415x3.535mm*Layout8x8*P0.4mm*; Footprint: Package_BGA:Texas_DSBGA-64_3.415x3.535mm_Layout8x8_P0.4mm; Datasheet: http://www.ti.com/lit/ds/symlink/msp430f5219.pdf; Description_: 128kB Flash, 8kB RAM, BGA-64
pins: A1 P6.1/CB1, A2 P6.4/CB4, A3 P6.7/CB7, A4 P5.1, A5 P5.4/XIN, A6 P5.5/XOUT, A7 DVCC, A8 DVSS, B1 PJ.3/TCK, B2 P6.2/CB2, B3 P6.5/CB5, B4 P5.0, B5 AVCC, B6 AVSS, B7 TA0CLK/ACLK/P1.0, B8 VCORE, C1 PJ.1/TDI/TCLK, C2 P6.0/CB0, C3 P6.3/CB3, C4 P6.6/CB6, C5 TA0.3/P1.4, C6 TA0.2/P1.3, C7 TA0.0/P1.1, C8 TA0.1/P1.2, D1 P5.3/XT2OUT, D2 PJ.0/TDO, D3 PJ.2/TMS, D4 ~{{RSTDVCC}/SBWTDIO}, D5 TA1.2/P2.1, D6 TA1.0/P1.7, D7 CBOUT/TA1CLK/P1.6, D8 TA0.4/P1.5, E1 P5.2/XT2IN, E2 BSLEN, E3 ~{{RST}/NMI}, E4 SBWTCK/TEST, E5 PM_UCB1SOMI/PM_UCB1SCL/P4.2, E7 TA2CLK/SMCLK/P2.2, E8 TA1.1/P2.0, F1 P7.5/TB0.5, F2 P7.4/TB0.4, F3 P7.2/TB0.2, F4 PM_UCA1RXD/PM_UCA1SOMI/P4.5, F5 PM_UCB1STE/PM_UCA1CLK/P4.0, F6 UCB0STE/UCA0CLK/P2.7, F7 TA2.2/P2.5, F8 TA2.0/P2.3, G1 P7.3/TB0.3, G2 P7.1/TB0.1, G3 P4.7, G4 PM_UCB1CLK/PM_UCA1STE/P4.3, G5 UCA0RXD/UCA0SOMI/P3.4, G6 UCB0CLK/UCA0STE/P3.2, G7 UCB0SOMI/UCB0SCL/P3.1, G8 RTCCLK/DMAE0/P2.6, H1 P7.0/TB0.0, H2 P4.6, H3 PM_UCA1TXD/PM_UCA1SIMO/P4.4, H4 PM_UCB1SIMO/PM_UCB1SDA/P4.1, H5 DVIO, H6 DVSS, H7 UCA0TXD/UCA0SIMO/P3.3, H8 UCB0SIMO/UCB0SDA/P3.0, J7 TA2.1/P2.4

## MSP430F5227IRGC
designator *  value MSP430F5227IRGC  Reference: U
64kB Flash, 8kB RAM, QFN-64; ki_keywords: TI MSP430 16-bit mixed signal microcontroller; ki_fp_filters: Texas*RGC0064B*; Footprint: Package_DFN_QFN:Texas_RGC0064B_VQFN-64-1EP_9x9mm_P0.5mm_EP4.25x4.25mm; Datasheet: http://www.ti.com/lit/ds/symlink/msp430f5227.pdf; Description_: 64kB Flash, 8kB RAM, QFN-64
pins: 1 P6.0/CB0/A0, 2 P6.1/CB1/A1, 3 P6.2/CB2/A2, 4 P6.3/CB3/A3, 5 P6.4/CB4/A4, 6 P6.5/CB5/A5, 7 P6.6/CB6/A6, 8 P6.7/CB7/A7, 9 P5.0/A8/VeREF+, 10 P5.1/A9/VeREF-, 11 AVCC, 12 P5.4/XIN, 13 P5.5/XOUT, 14 AVSS, 15 DVCC, 16 DVSS, 17 VCORE, 18 TA0CLK/ACLK/P1.0, 19 TA0.0/P1.1, 20 TA0.1/P1.2, 21 TA0.2/P1.3, 22 TA0.3/P1.4, 23 TA0.4/P1.5, 24 CBOUT/TA1CLK/P1.6, 25 TA1.0/P1.7, 26 TA1.1/P2.0, 27 TA1.2/P2.1, 28 TA2CLK/SMCLK/P2.2, 29 TA2.0/P2.3, 30 TA2.1/P2.4, 31 TA2.2/P2.5, 32 RTCCLK/DMAE0/P2.6, 33 UCB0STE/UCA0CLK/P2.7, 34 UCB0SIMO/UCB0SDA/P3.0, 35 UCB0SOMI/UCB0SCL/P3.1, 36 UCB0CLK/UCA0STE/P3.2, 37 UCA0TXD/UCA0SIMO/P3.3, 38 UCA0RXD/UCA0SOMI/P3.4, 39 DVSS, 40 DVIO, 41 PM_UCB1STE/PM_UCA1CLK/P4.0, 42 PM_UCB1SIMO/PM_UCB1SDA/P4.1, 43 PM_UCB1SOMI/PM_UCB1SCL/P4.2, 44 PM_UCB1CLK/PM_UCA1STE/P4.3, 45 PM_UCA1TXD/PM_UCA1SIMO/P4.4, 46 PM_UCA1RXD/PM_UCA1SOMI/P4.5, 47 P4.6, 48 P4.7, 49 P7.0/TB0.0, 50 P7.1/TB0.1, 51 P7.2/TB0.2, 52 P7.3/TB0.3, 53 P7.4/TB0.4, 54 P7.5/TB0.5, 55 BSLEN, 56 ~{{RST}/NMI}, 57 P5.2/XT2IN, 58 P5.3/XT2OUT, 59 SBWTCK/TEST, 60 PJ.0/TDO, 61 PJ.1/TDI/TCLK, 62 PJ.2/TMS, 63 PJ.3/TCK, 64 ~{{RSTDVCC}/SBWTDIO}